# Altium integrated library Altera MAX 9000.IntLib: 43 symbols (part 3 of 4)
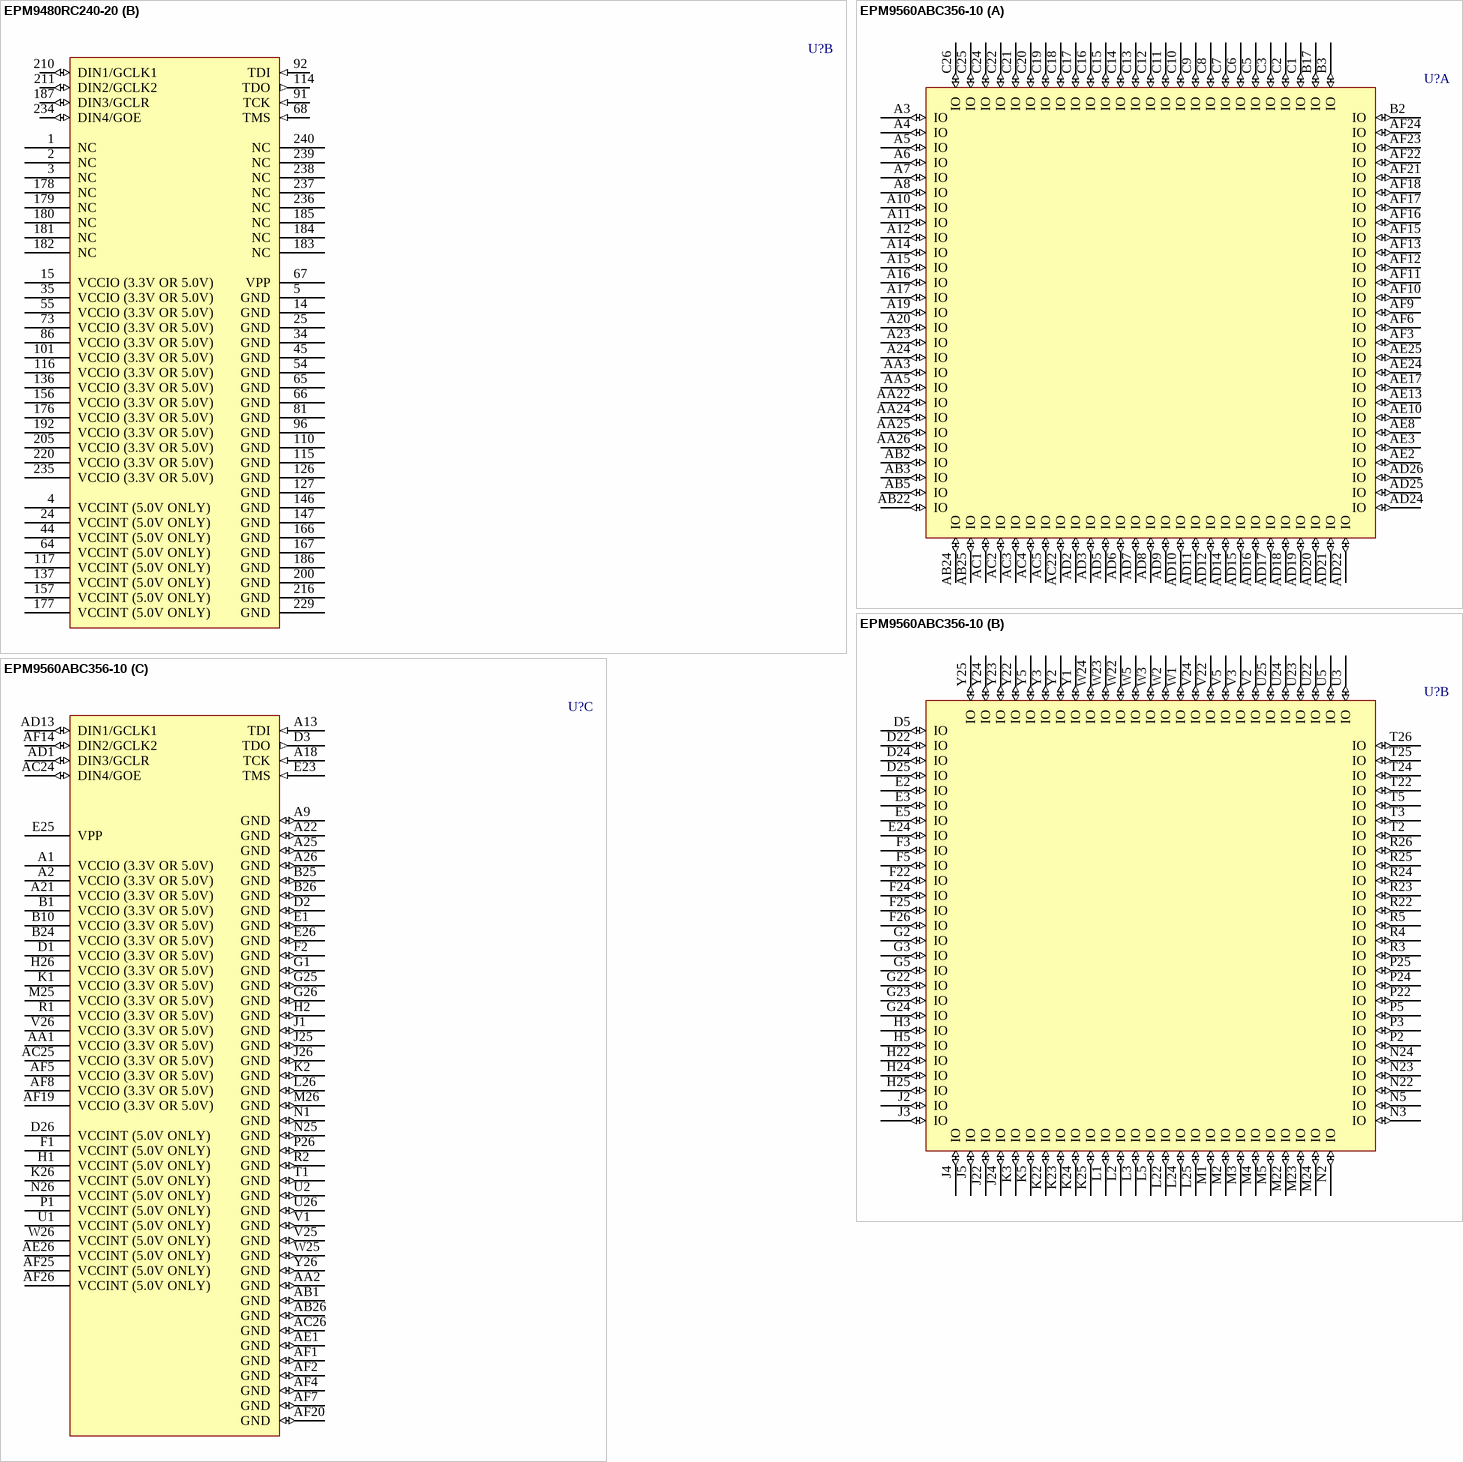
[diagram p33: symbols EPM9480RC240-20 to EPM9560ABC356-10]

## EPM9480RC240-20
designator U?
MAX 9000 PLD with 175 I/O Pins, 240-Pin RQFP, Commercial Grade; Published: 23-Sep-2002; LatestRevisionDate: 13-Apr-2006; LatestRevisionNote: IPC-7351 Footprint Added.; DatasheetVersion: Jul-1999; PackageVersion: ver14.2, Oct-2005; PackageReference: RQFP240; Publisher: Altium Limited; PackageDescription: 240-Pin Power Quad Flat Pack (RQFP240); Code_JEDEC: MS-029-GA; ComponentLink1Description: Manufacturer Link; ComponentLink1URL: http://www.altera.com/products/devices/max9k/m9k-index.html; ComponentLink2Description: Datasheet; ComponentLink2URL: http://www.altera.com/literature/ds/m9000.pdf
footprint RQFP240_N (Shrink QFP, 240-Leads, Body 32x32mm, Pitch 0.5mm, IPC Medium Density)
footprint RQFP240_L (Shrink QFP, 240-Leads, Body 32x32mm, Pitch 0.5mm, IPC High Density)
footprint RQFP240_M (Shrink QFP, 240-Leads, Body 32x32mm, Pitch 0.5mm, IPC Low Density)
3D model EPM9480-RQFP240 (240-Pin Power Quad Flat Pack (RQFP240))
part A pins: 6 IO (io), 7 IO (io), 8 IO (io), 9 IO (io), 10 IO (io), 11 IO (io), 12 IO (io), 13 IO (io), 16 IO (io), 17 IO (io), 18 IO (io), 19 IO (io), 20 IO (io), 21 IO (io), 22 IO (io), 23 IO (io), 26 IO (io), 27 IO (io), 28 IO (io), 29 IO (io), 30 IO (io), 31 IO (io), 32 IO (io), 33 IO (io), 36 IO (io), 37 IO (io), 38 IO (io), 39 IO (io), 40 IO (io), 41 IO (io), 42 IO (io), 43 IO (io), 46 IO (io), 47 IO (io), 48 IO (io), 49 IO (io), 50 IO (io), 51 IO (io), 52 IO (io), 53 IO (io), 56 IO (io), 57 IO (io), 58 IO (io), 59 IO (io), 60 IO (io), 61 IO (io), 62 IO (io), 63 IO (io), 69 IO (io), 70 IO (io), 71 IO (io), 72 IO (io), 74 IO (io), 75 IO (io), 76 IO (io), 77 IO (io), 78 IO (io), 79 IO (io), 80 IO (io), 82 IO (io), 83 IO (io), 84 IO (io), 85 IO (io), 87 IO (io), 88 IO (io), 89 IO (io), 90 IO (io), 93 IO (io), 94 IO (io), 95 IO (io), 97 IO (io), 98 IO (io), 99 IO (io), 100 IO (io), 102 IO (io), 103 IO (io), 104 IO (io), 105 IO (io), 106 IO (io), 107 IO (io), 108 IO (io), 109 IO (io), 111 IO (io), 112 IO (io), 113 IO (io), 118 IO (io), 119 IO (io), 120 IO (io), 121 IO (io), 122 IO (io), 123 IO (io), 124 IO (io), 125 IO (io), 128 IO (io), 129 IO (io), 130 IO (io), 131 IO (io), 132 IO (io), 133 IO (io), 134 IO (io), 135 IO (io), 138 IO (io), 139 IO (io), 140 IO (io), 141 IO (io), 142 IO (io), 143 IO (io), 144 IO (io), 145 IO (io), 148 IO (io), 149 IO (io), 150 IO (io), 151 IO (io), 152 IO (io), 153 IO (io), 154 IO (io), 155 IO (io), 158 IO (io), 159 IO (io), 160 IO (io), 161 IO (io), 162 IO (io), 163 IO (io), 164 IO (io), 165 IO (io), 168 IO (io), 169 IO (io), 170 IO (io), 171 IO (io), 172 IO (io), 173 IO (io), 174 IO (io), 175 IO (io), 188 IO (io), 189 IO (io), 190 IO (io), 191 IO (io), 193 IO (io), 194 IO (io), 195 IO (io), 196 IO (io), 197 IO (io), 198 IO (io), 199 IO (io), 201 IO (io), 202 IO (io), 203 IO (io), 204 IO (io), 206 IO (io), 207 IO (io), 208 IO (io), 209 IO (io), 212 IO (io), 213 IO (io), 214 IO (io), 215 IO (io), 217 IO (io), 218 IO (io), 219 IO (io), 221 IO (io), 222 IO (io), 223 IO (io), 224 IO (io), 225 IO (io), 226 IO (io), 227 IO (io), 228 IO (io), 230 IO (io), 231 IO (io), 232 IO (io), 233 IO (io)
part B pins: 1 NC, 2 NC, 3 NC, 4 VCCINT (5.0V ONLY) (power), 5 GND (power), 14 GND (power), 15 VCCIO (3.3V OR 5.0V) (power), 24 VCCINT (5.0V ONLY) (power), 25 GND (power), 34 GND (power), 35 VCCIO (3.3V OR 5.0V) (power), 44 VCCINT (5.0V ONLY) (power), 45 GND (power), 54 GND (power), 55 VCCIO (3.3V OR 5.0V) (power), 64 VCCINT (5.0V ONLY) (power), 65 GND (power), 66 GND (power), 67 VPP (power), 68 TMS (in), 73 VCCIO (3.3V OR 5.0V) (power), 81 GND (power), 86 VCCIO (3.3V OR 5.0V) (power), 91 TCK (in), 92 TDI (in), 96 GND (power), 101 VCCIO (3.3V OR 5.0V) (power), 110 GND (power), 114 TDO (out), 115 GND (power), 116 VCCIO (3.3V OR 5.0V) (power), 117 VCCINT (5.0V ONLY) (power), 126 GND (power), 127 GND (power), 136 VCCIO (3.3V OR 5.0V) (power), 137 VCCINT (5.0V ONLY) (power), 146 GND (power), 147 GND (power), 156 VCCIO (3.3V OR 5.0V) (power), 157 VCCINT (5.0V ONLY) (power), 166 GND (power), 167 GND (power), 176 VCCIO (3.3V OR 5.0V) (power), 177 VCCINT (5.0V ONLY) (power), 178 NC, 179 NC, 180 NC, 181 NC, 182 NC, 183 NC, 184 NC, 185 NC, 186 GND (power), 187 DIN3/GCLR (io), 192 VCCIO (3.3V OR 5.0V) (power), 200 GND (power), 205 VCCIO (3.3V OR 5.0V) (power), 210 DIN1/GCLK1 (io), 211 DIN2/GCLK2 (io), 216 GND (power), 220 VCCIO (3.3V OR 5.0V) (power), 229 GND (power), 234 DIN4/GOE (io), 235 VCCIO (3.3V OR 5.0V) (power), 236 NC, 237 NC, 238 NC, 239 NC, 240 NC

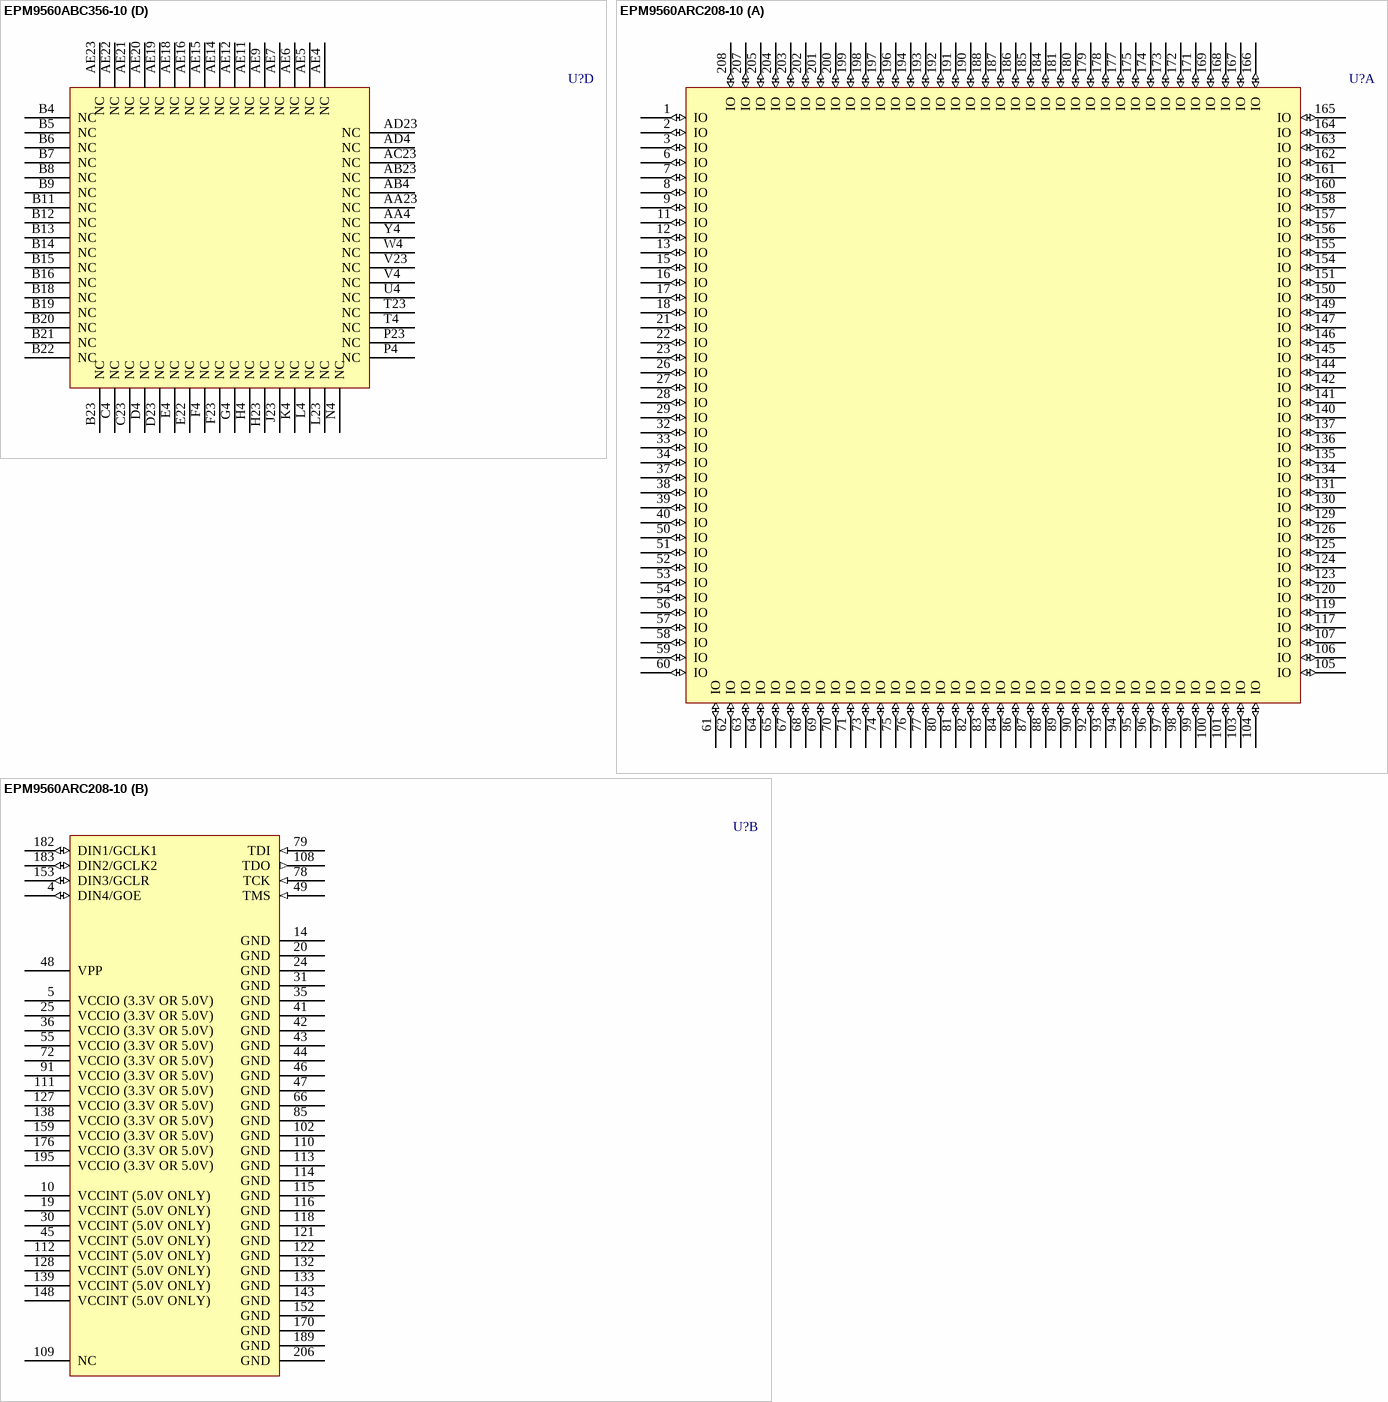
[diagram p18: symbols EPM9560ABC356-10 to EPM9560ARC208-10]

## EPM9560ABC356-10
designator U?
MAX 9000 PLD with 216 I/O Pins, 256-Pin BGA, Commercial Grade; Published: 23-Sep-2002; LatestRevisionDate: 13-Apr-2006; LatestRevisionNote: IPC-7351 Footprint Added.; DatasheetVersion: Jul-1999; PackageVersion: ver14.2, Oct-2005; PackageReference: BGA356; Publisher: Altium Limited; PackageDescription: 356-Ball Ball Grid Array (BGA356); Code_JEDEC: MO-192-BAR-2; ComponentLink1Description: Manufacturer Link; ComponentLink1URL: http://www.altera.com/products/devices/max9k/m9k-index.html; ComponentLink2Description: Datasheet; ComponentLink2URL: http://www.altera.com/literature/ds/m9000.pdf
footprint BGA356 (BGA, 356-Leads, Body 35x35mm, Pitch 1.27mm)
3D model EPM9560A-BGA356 (356-Ball Ball Grid Array (BGA356))
part A pins: A3 IO (io), A4 IO (io), A5 IO (io), A6 IO (io), A7 IO (io), A8 IO (io), A10 IO (io), A11 IO (io), A12 IO (io), A14 IO (io), A15 IO (io), A16 IO (io), A17 IO (io), A19 IO (io), A20 IO (io), A23 IO (io), A24 IO (io), AA3 IO (io), AA5 IO (io), AA22 IO (io), AA24 IO (io), AA25 IO (io), AA26 IO (io), AB2 IO (io), AB3 IO (io), AB5 IO (io), AB22 IO (io), AB24 IO (io), AB25 IO (io), AC1 IO (io), AC2 IO (io), AC3 IO (io), AC4 IO (io), AC5 IO (io), AC22 IO (io), AD2 IO (io), AD3 IO (io), AD5 IO (io), AD6 IO (io), AD7 IO (io), AD8 IO (io), AD9 IO (io), AD10 IO (io), AD11 IO (io), AD12 IO (io), AD14 IO (io), AD15 IO (io), AD16 IO (io), AD17 IO (io), AD18 IO (io), AD19 IO (io), AD20 IO (io), AD21 IO (io), AD22 IO (io), AD24 IO (io), AD25 IO (io), AD26 IO (io), AE2 IO (io), AE3 IO (io), AE8 IO (io), AE10 IO (io), AE13 IO (io), AE17 IO (io), AE24 IO (io), AE25 IO (io), AF3 IO (io), AF6 IO (io), AF9 IO (io), AF10 IO (io), AF11 IO (io), AF12 IO (io), AF13 IO (io), AF15 IO (io), AF16 IO (io), AF17 IO (io), AF18 IO (io), AF21 IO (io), AF22 IO (io), AF23 IO (io), AF24 IO (io), B2 IO (io), B3 IO (io), B17 IO (io), C1 IO (io), C2 IO (io), C3 IO (io), C5 IO (io), C6 IO (io), C7 IO (io), C8 IO (io), C9 IO (io), C10 IO (io), C11 IO (io), C12 IO (io), C13 IO (io), C14 IO (io), C15 IO (io), C16 IO (io), C17 IO (io), C18 IO (io), C19 IO (io), C20 IO (io), C21 IO (io), C22 IO (io), C24 IO (io), C25 IO (io), C26 IO (io)
part B pins: D5 IO (io), D22 IO (io), D24 IO (io), D25 IO (io), E2 IO (io), E3 IO (io), E5 IO (io), E24 IO (io), F3 IO (io), F5 IO (io), F22 IO (io), F24 IO (io), F25 IO (io), F26 IO (io), G2 IO (io), G3 IO (io), G5 IO (io), G22 IO (io), G23 IO (io), G24 IO (io), H3 IO (io), H5 IO (io), H22 IO (io), H24 IO (io), H25 IO (io), J2 IO (io), J3 IO (io), J4 IO (io), J5 IO (io), J22 IO (io), J24 IO (io), K3 IO (io), K5 IO (io), K22 IO (io), K23 IO (io), K24 IO (io), K25 IO (io), L1 IO (io), L2 IO (io), L3 IO (io), L5 IO (io), L22 IO (io), L24 IO (io), L25 IO (io), M1 IO (io), M2 IO (io), M3 IO (io), M4 IO (io), M5 IO (io), M22 IO (io), M23 IO (io), M24 IO (io), N2 IO (io), N3 IO (io), N5 IO (io), N22 IO (io), N23 IO (io), N24 IO (io), P2 IO (io), P3 IO (io), P5 IO (io), P22 IO (io), P24 IO (io), P25 IO (io), R3 IO (io), R4 IO (io), R5 IO (io), R22 IO (io), R23 IO (io), R24 IO (io), R25 IO (io), R26 IO (io), T2 IO (io), T3 IO (io), T5 IO (io), T22 IO (io), T24 IO (io), T25 IO (io), T26 IO (io), U3 IO (io), U5 IO (io), U22 IO (io), U23 IO (io), U24 IO (io), U25 IO (io), V2 IO (io), V3 IO (io), V5 IO (io), V22 IO (io), V24 IO (io), W1 IO (io), W2 IO (io), W3 IO (io), W5 IO (io), W22 IO (io), W23 IO (io), W24 IO (io), Y1 IO (io), Y2 IO (io), Y3 IO (io), Y5 IO (io), Y22 IO (io), Y23 IO (io), Y24 IO (io), Y25 IO (io)
part C pins: A1 VCCIO (3.3V OR 5.0V) (power), A2 VCCIO (3.3V OR 5.0V) (power), A9 GND (io), A13 TDI (in), A18 TCK (in), A21 VCCIO (3.3V OR 5.0V) (power), A22 GND (io), A25 GND (io), A26 GND (io), AA1 VCCIO (3.3V OR 5.0V) (power), AA2 GND (io), AB1 GND (io), AB26 GND (io), AC24 DIN4/GOE (io), AC25 VCCIO (3.3V OR 5.0V) (power), AC26 GND (io), AD1 DIN3/GCLR (io), AD13 DIN1/GCLK1 (io), AE1 GND (io), AE26 VCCINT (5.0V ONLY) (power), AF1 GND (io), AF2 GND (io), AF4 GND (io), AF5 VCCIO (3.3V OR 5.0V) (power), AF7 GND (io), AF8 VCCIO (3.3V OR 5.0V) (power), AF14 DIN2/GCLK2 (io), AF19 VCCIO (3.3V OR 5.0V) (power), AF20 GND (io), AF25 VCCINT (5.0V ONLY) (power), AF26 VCCINT (5.0V ONLY) (power), B1 VCCIO (3.3V OR 5.0V) (power), B10 VCCIO (3.3V OR 5.0V) (power), B24 VCCIO (3.3V OR 5.0V) (power), B25 GND (io), B26 GND (io), D1 VCCIO (3.3V OR 5.0V) (power), D2 GND (io), D3 TDO (out), D26 VCCINT (5.0V ONLY) (power), E1 GND (io), E23 TMS (in), E25 VPP (power), E26 GND (io), F1 VCCINT (5.0V ONLY) (power), F2 GND (io), G1 GND (io), G25 GND (io), G26 GND (io), H1 VCCINT (5.0V ONLY) (power), H2 GND (io), H26 VCCIO (3.3V OR 5.0V) (power), J1 GND (io), J25 GND (io), J26 GND (io), K1 VCCIO (3.3V OR 5.0V) (power), K2 GND (io), K26 VCCINT (5.0V ONLY) (power), L26 GND (io), M25 VCCIO (3.3V OR 5.0V) (power), M26 GND (io), N1 GND (io), N25 GND (io), N26 VCCINT (5.0V ONLY) (power), P1 VCCINT (5.0V ONLY) (power), P26 GND (io), R1 VCCIO (3.3V OR 5.0V) (power), R2 GND (io), T1 GND (io), U1 VCCINT (5.0V ONLY) (power), U2 GND (io), U26 GND (io), V1 GND (io), V25 GND (io), V26 VCCIO (3.3V OR 5.0V) (power), W25 GND (io), W26 VCCINT (5.0V ONLY) (power), Y26 GND (io)
part D pins: AA4 NC, AA23 NC, AB4 NC, AB23 NC, AC23 NC, AD4 NC, AD23 NC, AE4 NC, AE5 NC, AE6 NC, AE7 NC, AE9 NC, AE11 NC, AE12 NC, AE14 NC, AE15 NC, AE16 NC, AE18 NC, AE19 NC, AE20 NC, AE21 NC, AE22 NC, AE23 NC, B4 NC, B5 NC, B6 NC, B7 NC, B8 NC, B9 NC, B11 NC, B12 NC, B13 NC, B14 NC, B15 NC, B16 NC, B18 NC, B19 NC, B20 NC, B21 NC, B22 NC, B23 NC, C4 NC, C23 NC, D4 NC, D23 NC, E4 NC, E22 NC, F4 NC, F23 NC, G4 NC, H4 NC, H23 NC, J23 NC, K4 NC, L4 NC, L23 NC, N4 NC, P4 NC, P23 NC, T4 NC, T23 NC, U4 NC, V4 NC, V23 NC, W4 NC, Y4 NC

## EPM9560ARC208-10
designator U?
MAX 9000 PLD with 153 I/O Pins, 208-Pin RQFP, Commercial Grade; Published: 23-Sep-2002; LatestRevisionDate: 13-Apr-2006; LatestRevisionNote: IPC-7351 Footprint Added.; DatasheetVersion: Jul-1999; PackageVersion: ver14.3, Jul-2006; PackageReference: RQFP208; Publisher: Altium Limited; PackageDescription: 208-Pin Power Quad Flat Pack (RQFP208); Supplier 1: Digi-Key; Supplier Part Number 1: 544-2363-ND; Code_JEDEC: MS-029-FA-1; ComponentLink1Description: Manufacturer Link; ComponentLink1URL: http://www.altera.com/products/devices/max9k/m9k-index.html; ComponentLink2Description: Datasheet; ComponentLink2URL: http://www.altera.com/literature/ds/m9000.pdf
footprint RQFP208_N (Shrink QFP, 208-Leads, Body 28x28mm, Pitch 0.5mm, IPC Medium Density)
footprint RQFP208_L (Shrink QFP, 208-Leads, Body 28x28mm, Pitch 0.5mm, IPC High Density)
footprint RQFP208_M (Shrink QFP, 208-Leads, Body 28x28mm, Pitch 0.5mm, IPC Low Density)
3D model EPM9560A-RQFP208 (208-Pin Power Quad Flat Pack (RQFP208))
part A pins: 1 IO (io), 2 IO (io), 3 IO (io), 6 IO (io), 7 IO (io), 8 IO (io), 9 IO (io), 11 IO (io), 12 IO (io), 13 IO (io), 15 IO (io), 16 IO (io), 17 IO (io), 18 IO (io), 21 IO (io), 22 IO (io), 23 IO (io), 26 IO (io), 27 IO (io), 28 IO (io), 29 IO (io), 32 IO (io), 33 IO (io), 34 IO (io), 37 IO (io), 38 IO (io), 39 IO (io), 40 IO (io), 50 IO (io), 51 IO (io), 52 IO (io), 53 IO (io), 54 IO (io), 56 IO (io), 57 IO (io), 58 IO (io), 59 IO (io), 60 IO (io), 61 IO (io), 62 IO (io), 63 IO (io), 64 IO (io), 65 IO (io), 67 IO (io), 68 IO (io), 69 IO (io), 70 IO (io), 71 IO (io), 73 IO (io), 74 IO (io), 75 IO (io), 76 IO (io), 77 IO (io), 80 IO (io), 81 IO (io), 82 IO (io), 83 IO (io), 84 IO (io), 86 IO (io), 87 IO (io), 88 IO (io), 89 IO (io), 90 IO (io), 92 IO (io), 93 IO (io), 94 IO (io), 95 IO (io), 96 IO (io), 97 IO (io), 98 IO (io), 99 IO (io), 100 IO (io), 101 IO (io), 103 IO (io), 104 IO (io), 105 IO (io), 106 IO (io), 107 IO (io), 117 IO (io), 119 IO (io), 120 IO (io), 123 IO (io), 124 IO (io), 125 IO (io), 126 IO (io), 129 IO (io), 130 IO (io), 131 IO (io), 134 IO (io), 135 IO (io), 136 IO (io), 137 IO (io), 140 IO (io), 141 IO (io), 142 IO (io), 144 IO (io), 145 IO (io), 146 IO (io), 147 IO (io), 149 IO (io), 150 IO (io), 151 IO (io), 154 IO (io), 155 IO (io), 156 IO (io), 157 IO (io), 158 IO (io), 160 IO (io), 161 IO (io), 162 IO (io), 163 IO (io), 164 IO (io), 165 IO (io), 166 IO (io), 167 IO (io), 168 IO (io), 169 IO (io), 171 IO (io), 172 IO (io), 173 IO (io), 174 IO (io), 175 IO (io), 177 IO (io), 178 IO (io), 179 IO (io), 180 IO (io), 181 IO (io), 184 IO (io), 185 IO (io), 186 IO (io), 187 IO (io), 188 IO (io), 190 IO (io), 191 IO (io), 192 IO (io), 193 IO (io), 194 IO (io), 196 IO (io), 197 IO (io), 198 IO (io), 199 IO (io), 200 IO (io), 201 IO (io), 202 IO (io), 203 IO (io), 204 IO (io), 205 IO (io), 207 IO (io), 208 IO (io)
part B pins: 4 DIN4/GOE (io), 5 VCCIO (3.3V OR 5.0V) (power), 10 VCCINT (5.0V ONLY) (power), 14 GND (power), 19 VCCINT (5.0V ONLY) (power), 20 GND (power), 24 GND (power), 25 VCCIO (3.3V OR 5.0V) (power), 30 VCCINT (5.0V ONLY) (power), 31 GND (power), 35 GND (power), 36 VCCIO (3.3V OR 5.0V) (power), 41 GND (power), 42 GND (power), 43 GND (power), 44 GND (power), 45 VCCINT (5.0V ONLY) (power), 46 GND (power), 47 GND (power), 48 VPP (power), 49 TMS (in), 55 VCCIO (3.3V OR 5.0V) (power), 66 GND (power), 72 VCCIO (3.3V OR 5.0V) (power), 78 TCK (in), 79 TDI (in), 85 GND (power), 91 VCCIO (3.3V OR 5.0V) (power), 102 GND (power), 108 TDO (out), 109 NC, 110 GND (power), 111 VCCIO (3.3V OR 5.0V) (power), 112 VCCINT (5.0V ONLY) (power), 113 GND (power), 114 GND (power), 115 GND (power), 116 GND (power), 118 GND (power), 121 GND (power), 122 GND (power), 127 VCCIO (3.3V OR 5.0V) (power), 128 VCCINT (5.0V ONLY) (power), 132 GND (power), 133 GND (power), 138 VCCIO (3.3V OR 5.0V) (power), 139 VCCINT (5.0V ONLY) (power), 143 GND (power), 148 VCCINT (5.0V ONLY) (power), 152 GND (power), 153 DIN3/GCLR (io), 159 VCCIO (3.3V OR 5.0V) (power), 170 GND (power), 176 VCCIO (3.3V OR 5.0V) (power), 182 DIN1/GCLK1 (io), 183 DIN2/GCLK2 (io), 189 GND (power), 195 VCCIO (3.3V OR 5.0V) (power), 206 GND (power)

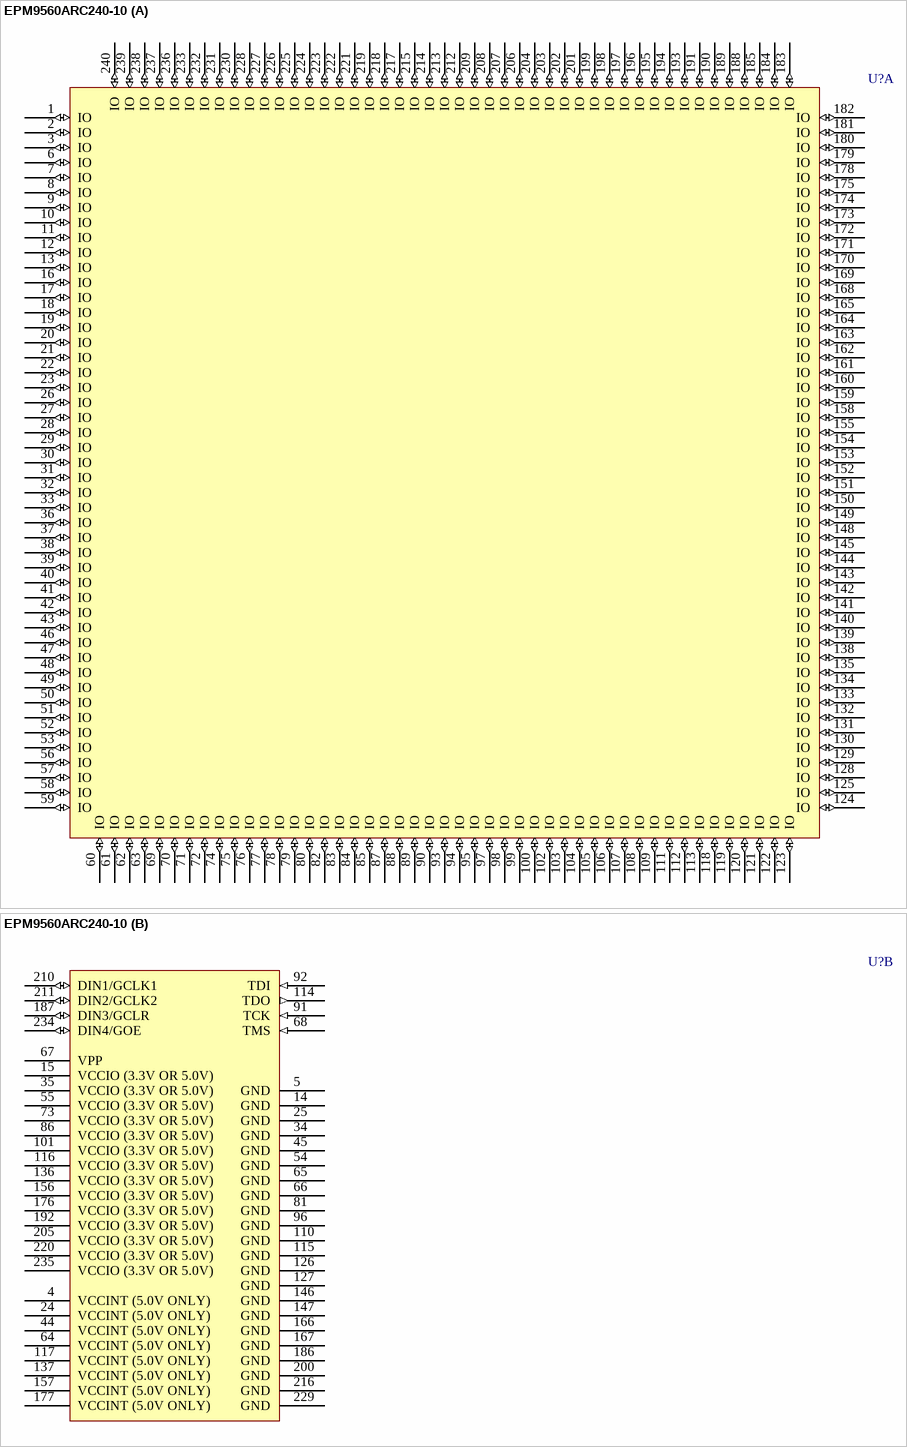
[diagram p19: symbol EPM9560ARC240-10]

## EPM9560ARC240-10
designator U?
MAX 9000 PLD with 191 I/O Pins, 240-Pin RQFP, Commercial Grade; Published: 23-Sep-2002; LatestRevisionDate: 13-Apr-2006; LatestRevisionNote: IPC-7351 Footprint Added.; DatasheetVersion: Jul-1999; PackageVersion: ver14.2, Oct-2005; PackageReference: RQFP240; Publisher: Altium Limited; PackageDescription: 240-Pin Power Quad Flat Pack (RQFP240); Code_JEDEC: MS-029-GA; ComponentLink1Description: Manufacturer Link; ComponentLink1URL: http://www.altera.com/products/devices/max9k/m9k-index.html; ComponentLink2Description: Datasheet; ComponentLink2URL: http://www.altera.com/literature/ds/m9000.pdf
footprint RQFP240_N (Shrink QFP, 240-Leads, Body 32x32mm, Pitch 0.5mm, IPC Medium Density)
footprint RQFP240_L (Shrink QFP, 240-Leads, Body 32x32mm, Pitch 0.5mm, IPC High Density)
footprint RQFP240_M (Shrink QFP, 240-Leads, Body 32x32mm, Pitch 0.5mm, IPC Low Density)
3D model EPM9560A-RQFP240 (240-Pin Power Quad Flat Pack (RQFP240))
part A pins: 1 IO (io), 2 IO (io), 3 IO (io), 6 IO (io), 7 IO (io), 8 IO (io), 9 IO (io), 10 IO (io), 11 IO (io), 12 IO (io), 13 IO (io), 16 IO (io), 17 IO (io), 18 IO (io), 19 IO (io), 20 IO (io), 21 IO (io), 22 IO (io), 23 IO (io), 26 IO (io), 27 IO (io), 28 IO (io), 29 IO (io), 30 IO (io), 31 IO (io), 32 IO (io), 33 IO (io), 36 IO (io), 37 IO (io), 38 IO (io), 39 IO (io), 40 IO (io), 41 IO (io), 42 IO (io), 43 IO (io), 46 IO (io), 47 IO (io), 48 IO (io), 49 IO (io), 50 IO (io), 51 IO (io), 52 IO (io), 53 IO (io), 56 IO (io), 57 IO (io), 58 IO (io), 59 IO (io), 60 IO (io), 61 IO (io), 62 IO (io), 63 IO (io), 69 IO (io), 70 IO (io), 71 IO (io), 72 IO (io), 74 IO (io), 75 IO (io), 76 IO (io), 77 IO (io), 78 IO (io), 79 IO (io), 80 IO (io), 82 IO (io), 83 IO (io), 84 IO (io), 85 IO (io), 87 IO (io), 88 IO (io), 89 IO (io), 90 IO (io), 93 IO (io), 94 IO (io), 95 IO (io), 97 IO (io), 98 IO (io), 99 IO (io), 100 IO (io), 102 IO (io), 103 IO (io), 104 IO (io), 105 IO (io), 106 IO (io), 107 IO (io), 108 IO (io), 109 IO (io), 111 IO (io), 112 IO (io), 113 IO (io), 118 IO (io), 119 IO (io), 120 IO (io), 121 IO (io), 122 IO (io), 123 IO (io), 124 IO (io), 125 IO (io), 128 IO (io), 129 IO (io), 130 IO (io), 131 IO (io), 132 IO (io), 133 IO (io), 134 IO (io), 135 IO (io), 138 IO (io), 139 IO (io), 140 IO (io), 141 IO (io), 142 IO (io), 143 IO (io), 144 IO (io), 145 IO (io), 148 IO (io), 149 IO (io), 150 IO (io), 151 IO (io), 152 IO (io), 153 IO (io), 154 IO (io), 155 IO (io), 158 IO (io), 159 IO (io), 160 IO (io), 161 IO (io), 162 IO (io), 163 IO (io), 164 IO (io), 165 IO (io), 168 IO (io), 169 IO (io), 170 IO (io), 171 IO (io), 172 IO (io), 173 IO (io), 174 IO (io), 175 IO (io), 178 IO (io), 179 IO (io), 180 IO (io), 181 IO (io), 182 IO (io), 183 IO (io), 184 IO (io), 185 IO (io), 188 IO (io), 189 IO (io), 190 IO (io), 191 IO (io), 193 IO (io), 194 IO (io), 195 IO (io), 196 IO (io), 197 IO (io), 198 IO (io), 199 IO (io), 201 IO (io), 202 IO (io), 203 IO (io), 204 IO (io), 206 IO (io), 207 IO (io), 208 IO (io), 209 IO (io), 212 IO (io), 213 IO (io), 214 IO (io), 215 IO (io), 217 IO (io), 218 IO (io), 219 IO (io), 221 IO (io), 222 IO (io), 223 IO (io), 224 IO (io), 225 IO (io), 226 IO (io), 227 IO (io), 228 IO (io), 230 IO (io), 231 IO (io), 232 IO (io), 233 IO (io), 236 IO (io), 237 IO (io), 238 IO (io), 239 IO (io), 240 IO (io)
part B pins: 4 VCCINT (5.0V ONLY) (power), 5 GND (power), 14 GND (power), 15 VCCIO (3.3V OR 5.0V) (power), 24 VCCINT (5.0V ONLY) (power), 25 GND (power), 34 GND (power), 35 VCCIO (3.3V OR 5.0V) (power), 44 VCCINT (5.0V ONLY) (power), 45 GND (power), 54 GND (power), 55 VCCIO (3.3V OR 5.0V) (power), 64 VCCINT (5.0V ONLY) (power), 65 GND (power), 66 GND (power), 67 VPP (power), 68 TMS (in), 73 VCCIO (3.3V OR 5.0V) (power), 81 GND (power), 86 VCCIO (3.3V OR 5.0V) (power), 91 TCK (in), 92 TDI (in), 96 GND (power), 101 VCCIO (3.3V OR 5.0V) (power), 110 GND (power), 114 TDO (out), 115 GND (power), 116 VCCIO (3.3V OR 5.0V) (power), 117 VCCINT (5.0V ONLY) (power), 126 GND (power), 127 GND (power), 136 VCCIO (3.3V OR 5.0V) (power), 137 VCCINT (5.0V ONLY) (power), 146 GND (power), 147 GND (power), 156 VCCIO (3.3V OR 5.0V) (power), 157 VCCINT (5.0V ONLY) (power), 166 GND (power), 167 GND (power), 176 VCCIO (3.3V OR 5.0V) (power), 177 VCCINT (5.0V ONLY) (power), 186 GND (power), 187 DIN3/GCLR (io), 192 VCCIO (3.3V OR 5.0V) (power), 200 GND (power), 205 VCCIO (3.3V OR 5.0V) (power), 210 DIN1/GCLK1 (io), 211 DIN2/GCLK2 (io), 216 GND (power), 220 VCCIO (3.3V OR 5.0V) (power), 229 GND (power), 234 DIN4/GOE (io), 235 VCCIO (3.3V OR 5.0V) (power)

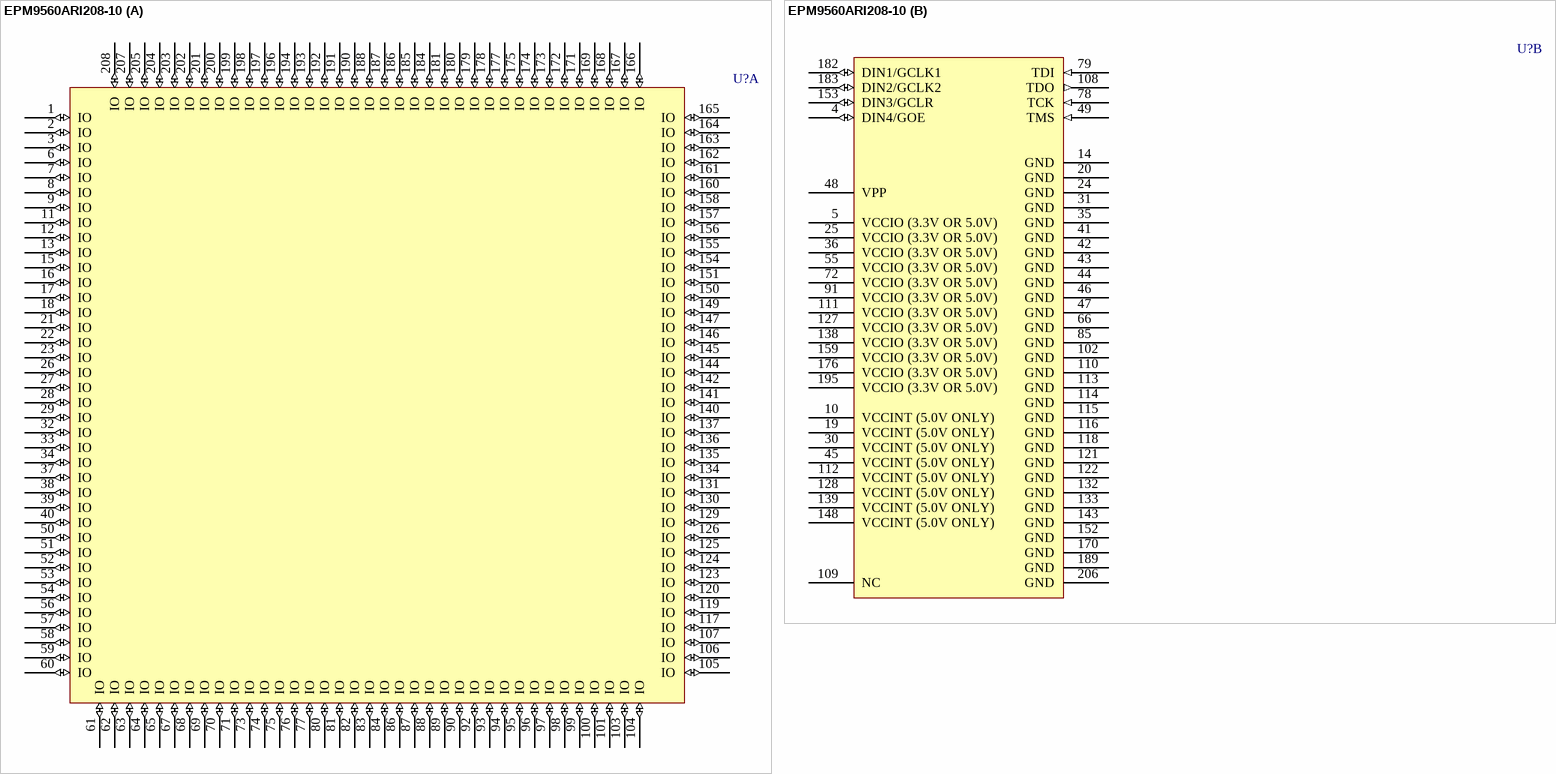
[diagram p20: symbol EPM9560ARI208-10]

## EPM9560ARI208-10
designator U?
MAX 9000 PLD with 153 I/O Pins, 208-Pin RQFP, Industrial Grade; Published: 23-Sep-2002; LatestRevisionDate: 13-Apr-2006; LatestRevisionNote: IPC-7351 Footprint Added.; DatasheetVersion: Jul-1999; PackageVersion: ver14.3, Jul-2006; PackageReference: RQFP208; Publisher: Altium Limited; PackageDescription: 208-Pin Power Quad Flat Pack (RQFP208); Supplier 1: Digi-Key; Supplier Part Number 1: 544-2364-ND; Code_JEDEC: MS-029-FA-1; ComponentLink1Description: Manufacturer Link; ComponentLink1URL: http://www.altera.com/products/devices/max9k/m9k-index.html; ComponentLink2Description: Datasheet; ComponentLink2URL: http://www.altera.com/literature/ds/m9000.pdf
footprint RQFP208_N (Shrink QFP, 208-Leads, Body 28x28mm, Pitch 0.5mm, IPC Medium Density)
footprint RQFP208_L (Shrink QFP, 208-Leads, Body 28x28mm, Pitch 0.5mm, IPC High Density)
footprint RQFP208_M (Shrink QFP, 208-Leads, Body 28x28mm, Pitch 0.5mm, IPC Low Density)
3D model EPM9560A-RQFP208 (208-Pin Power Quad Flat Pack (RQFP208))
part A pins: 1 IO (io), 2 IO (io), 3 IO (io), 6 IO (io), 7 IO (io), 8 IO (io), 9 IO (io), 11 IO (io), 12 IO (io), 13 IO (io), 15 IO (io), 16 IO (io), 17 IO (io), 18 IO (io), 21 IO (io), 22 IO (io), 23 IO (io), 26 IO (io), 27 IO (io), 28 IO (io), 29 IO (io), 32 IO (io), 33 IO (io), 34 IO (io), 37 IO (io), 38 IO (io), 39 IO (io), 40 IO (io), 50 IO (io), 51 IO (io), 52 IO (io), 53 IO (io), 54 IO (io), 56 IO (io), 57 IO (io), 58 IO (io), 59 IO (io), 60 IO (io), 61 IO (io), 62 IO (io), 63 IO (io), 64 IO (io), 65 IO (io), 67 IO (io), 68 IO (io), 69 IO (io), 70 IO (io), 71 IO (io), 73 IO (io), 74 IO (io), 75 IO (io), 76 IO (io), 77 IO (io), 80 IO (io), 81 IO (io), 82 IO (io), 83 IO (io), 84 IO (io), 86 IO (io), 87 IO (io), 88 IO (io), 89 IO (io), 90 IO (io), 92 IO (io), 93 IO (io), 94 IO (io), 95 IO (io), 96 IO (io), 97 IO (io), 98 IO (io), 99 IO (io), 100 IO (io), 101 IO (io), 103 IO (io), 104 IO (io), 105 IO (io), 106 IO (io), 107 IO (io), 117 IO (io), 119 IO (io), 120 IO (io), 123 IO (io), 124 IO (io), 125 IO (io), 126 IO (io), 129 IO (io), 130 IO (io), 131 IO (io), 134 IO (io), 135 IO (io), 136 IO (io), 137 IO (io), 140 IO (io), 141 IO (io), 142 IO (io), 144 IO (io), 145 IO (io), 146 IO (io), 147 IO (io), 149 IO (io), 150 IO (io), 151 IO (io), 154 IO (io), 155 IO (io), 156 IO (io), 157 IO (io), 158 IO (io), 160 IO (io), 161 IO (io), 162 IO (io), 163 IO (io), 164 IO (io), 165 IO (io), 166 IO (io), 167 IO (io), 168 IO (io), 169 IO (io), 171 IO (io), 172 IO (io), 173 IO (io), 174 IO (io), 175 IO (io), 177 IO (io), 178 IO (io), 179 IO (io), 180 IO (io), 181 IO (io), 184 IO (io), 185 IO (io), 186 IO (io), 187 IO (io), 188 IO (io), 190 IO (io), 191 IO (io), 192 IO (io), 193 IO (io), 194 IO (io), 196 IO (io), 197 IO (io), 198 IO (io), 199 IO (io), 200 IO (io), 201 IO (io), 202 IO (io), 203 IO (io), 204 IO (io), 205 IO (io), 207 IO (io), 208 IO (io)
part B pins: 4 DIN4/GOE (io), 5 VCCIO (3.3V OR 5.0V) (power), 10 VCCINT (5.0V ONLY) (power), 14 GND (power), 19 VCCINT (5.0V ONLY) (power), 20 GND (power), 24 GND (power), 25 VCCIO (3.3V OR 5.0V) (power), 30 VCCINT (5.0V ONLY) (power), 31 GND (power), 35 GND (power), 36 VCCIO (3.3V OR 5.0V) (power), 41 GND (power), 42 GND (power), 43 GND (power), 44 GND (power), 45 VCCINT (5.0V ONLY) (power), 46 GND (power), 47 GND (power), 48 VPP (power), 49 TMS (in), 55 VCCIO (3.3V OR 5.0V) (power), 66 GND (power), 72 VCCIO (3.3V OR 5.0V) (power), 78 TCK (in), 79 TDI (in), 85 GND (power), 91 VCCIO (3.3V OR 5.0V) (power), 102 GND (power), 108 TDO (out), 109 NC, 110 GND (power), 111 VCCIO (3.3V OR 5.0V) (power), 112 VCCINT (5.0V ONLY) (power), 113 GND (power), 114 GND (power), 115 GND (power), 116 GND (power), 118 GND (power), 121 GND (power), 122 GND (power), 127 VCCIO (3.3V OR 5.0V) (power), 128 VCCINT (5.0V ONLY) (power), 132 GND (power), 133 GND (power), 138 VCCIO (3.3V OR 5.0V) (power), 139 VCCINT (5.0V ONLY) (power), 143 GND (power), 148 VCCINT (5.0V ONLY) (power), 152 GND (power), 153 DIN3/GCLR (io), 159 VCCIO (3.3V OR 5.0V) (power), 170 GND (power), 176 VCCIO (3.3V OR 5.0V) (power), 182 DIN1/GCLK1 (io), 183 DIN2/GCLK2 (io), 189 GND (power), 195 VCCIO (3.3V OR 5.0V) (power), 206 GND (power)

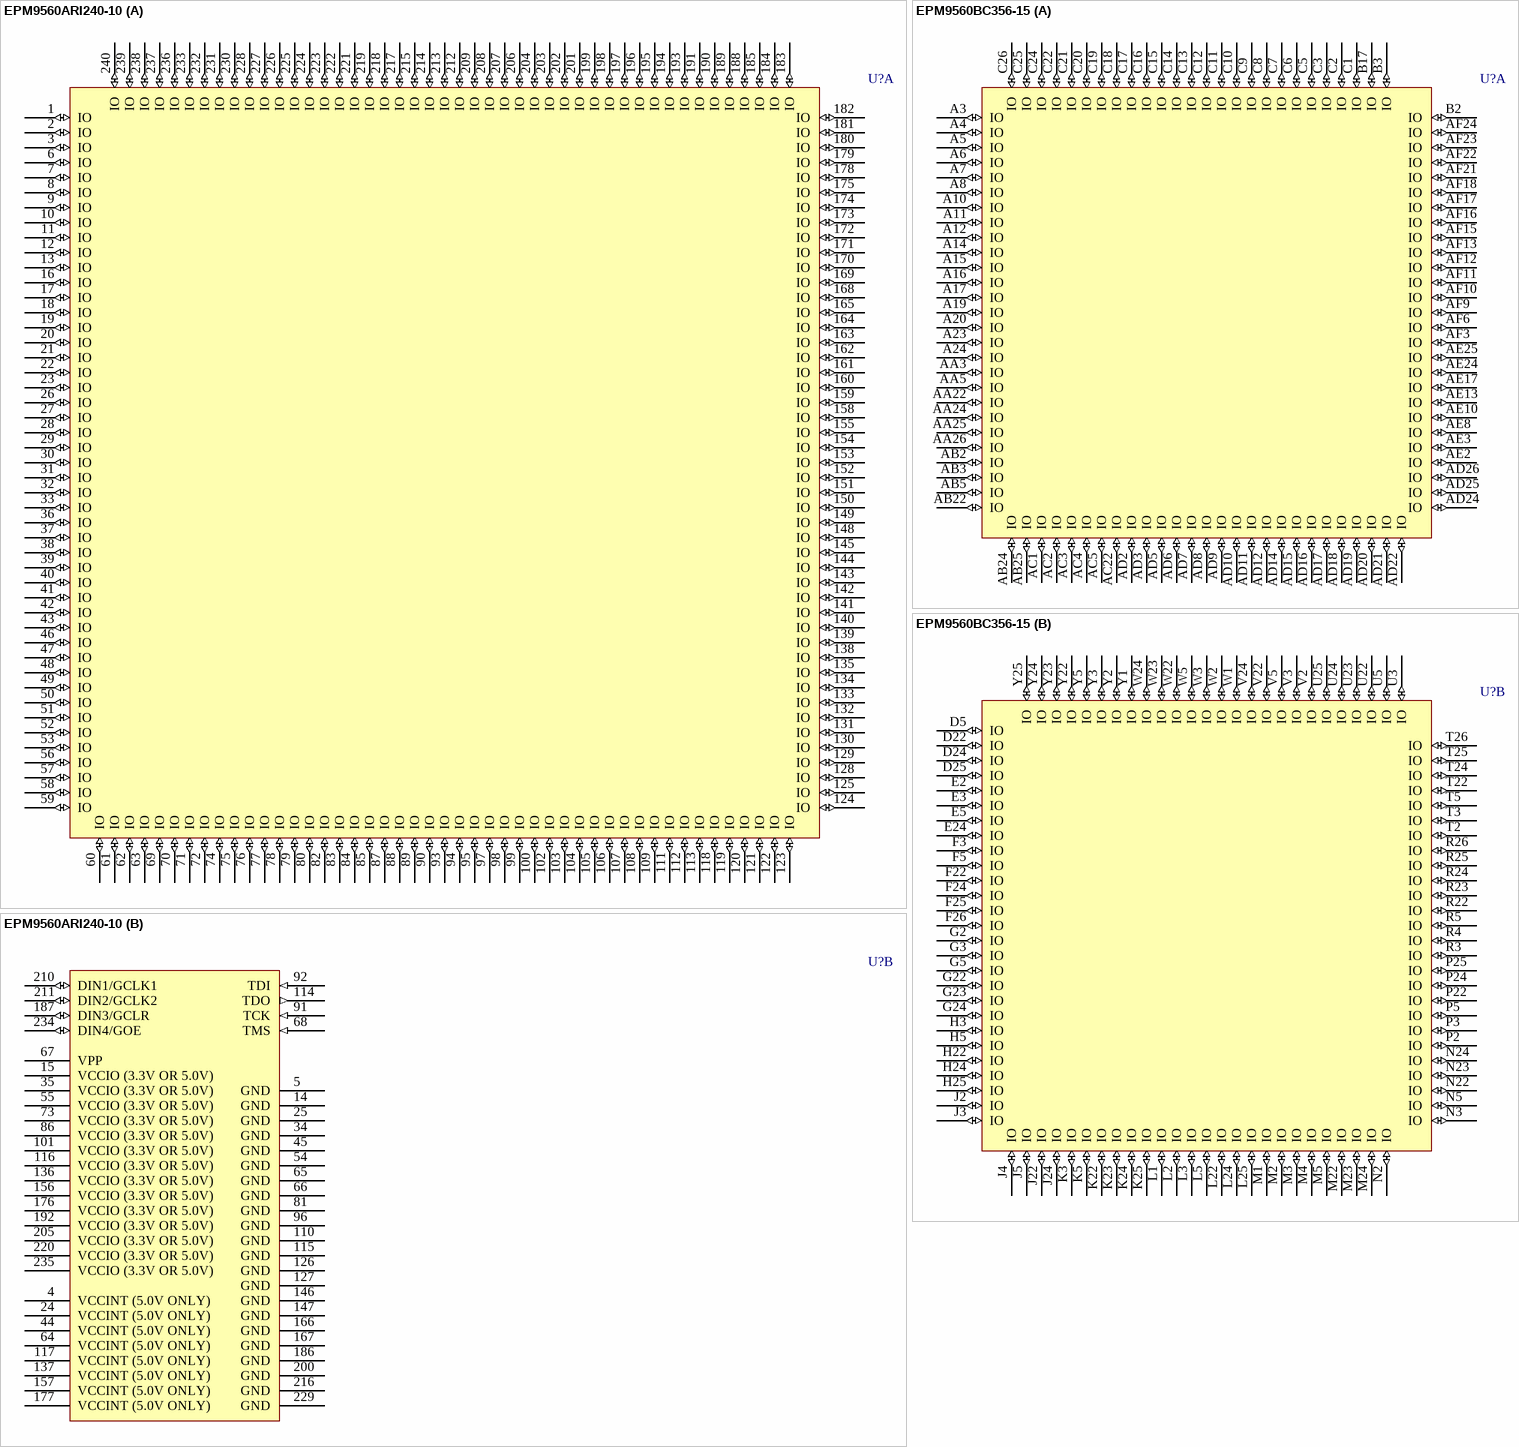
[diagram p21: symbols EPM9560ARI240-10 to EPM9560BC356-15]

## EPM9560ARI240-10
designator U?
MAX 9000 PLD with 191 I/O Pins, 240-Pin RQFP, Industrial Grade; Published: 23-Sep-2002; LatestRevisionDate: 13-Apr-2006; LatestRevisionNote: IPC-7351 Footprint Added.; DatasheetVersion: Jul-1999; PackageVersion: ver14.2, Oct-2005; PackageReference: RQFP240; Publisher: Altium Limited; PackageDescription: 240-Pin Power Quad Flat Pack (RQFP240); Supplier 1: Digi-Key; Supplier Part Number 1: 544-2365-ND; Code_JEDEC: MS-029-GA; ComponentLink1Description: Manufacturer Link; ComponentLink1URL: http://www.altera.com/products/devices/max9k/m9k-index.html; ComponentLink2Description: Datasheet; ComponentLink2URL: http://www.altera.com/literature/ds/m9000.pdf
footprint RQFP240_N (Shrink QFP, 240-Leads, Body 32x32mm, Pitch 0.5mm, IPC Medium Density)
footprint RQFP240_L (Shrink QFP, 240-Leads, Body 32x32mm, Pitch 0.5mm, IPC High Density)
footprint RQFP240_M (Shrink QFP, 240-Leads, Body 32x32mm, Pitch 0.5mm, IPC Low Density)
3D model EPM9560A-RQFP240 (240-Pin Power Quad Flat Pack (RQFP240))
part A pins: 1 IO (io), 2 IO (io), 3 IO (io), 6 IO (io), 7 IO (io), 8 IO (io), 9 IO (io), 10 IO (io), 11 IO (io), 12 IO (io), 13 IO (io), 16 IO (io), 17 IO (io), 18 IO (io), 19 IO (io), 20 IO (io), 21 IO (io), 22 IO (io), 23 IO (io), 26 IO (io), 27 IO (io), 28 IO (io), 29 IO (io), 30 IO (io), 31 IO (io), 32 IO (io), 33 IO (io), 36 IO (io), 37 IO (io), 38 IO (io), 39 IO (io), 40 IO (io), 41 IO (io), 42 IO (io), 43 IO (io), 46 IO (io), 47 IO (io), 48 IO (io), 49 IO (io), 50 IO (io), 51 IO (io), 52 IO (io), 53 IO (io), 56 IO (io), 57 IO (io), 58 IO (io), 59 IO (io), 60 IO (io), 61 IO (io), 62 IO (io), 63 IO (io), 69 IO (io), 70 IO (io), 71 IO (io), 72 IO (io), 74 IO (io), 75 IO (io), 76 IO (io), 77 IO (io), 78 IO (io), 79 IO (io), 80 IO (io), 82 IO (io), 83 IO (io), 84 IO (io), 85 IO (io), 87 IO (io), 88 IO (io), 89 IO (io), 90 IO (io), 93 IO (io), 94 IO (io), 95 IO (io), 97 IO (io), 98 IO (io), 99 IO (io), 100 IO (io), 102 IO (io), 103 IO (io), 104 IO (io), 105 IO (io), 106 IO (io), 107 IO (io), 108 IO (io), 109 IO (io), 111 IO (io), 112 IO (io), 113 IO (io), 118 IO (io), 119 IO (io), 120 IO (io), 121 IO (io), 122 IO (io), 123 IO (io), 124 IO (io), 125 IO (io), 128 IO (io), 129 IO (io), 130 IO (io), 131 IO (io), 132 IO (io), 133 IO (io), 134 IO (io), 135 IO (io), 138 IO (io), 139 IO (io), 140 IO (io), 141 IO (io), 142 IO (io), 143 IO (io), 144 IO (io), 145 IO (io), 148 IO (io), 149 IO (io), 150 IO (io), 151 IO (io), 152 IO (io), 153 IO (io), 154 IO (io), 155 IO (io), 158 IO (io), 159 IO (io), 160 IO (io), 161 IO (io), 162 IO (io), 163 IO (io), 164 IO (io), 165 IO (io), 168 IO (io), 169 IO (io), 170 IO (io), 171 IO (io), 172 IO (io), 173 IO (io), 174 IO (io), 175 IO (io), 178 IO (io), 179 IO (io), 180 IO (io), 181 IO (io), 182 IO (io), 183 IO (io), 184 IO (io), 185 IO (io), 188 IO (io), 189 IO (io), 190 IO (io), 191 IO (io), 193 IO (io), 194 IO (io), 195 IO (io), 196 IO (io), 197 IO (io), 198 IO (io), 199 IO (io), 201 IO (io), 202 IO (io), 203 IO (io), 204 IO (io), 206 IO (io), 207 IO (io), 208 IO (io), 209 IO (io), 212 IO (io), 213 IO (io), 214 IO (io), 215 IO (io), 217 IO (io), 218 IO (io), 219 IO (io), 221 IO (io), 222 IO (io), 223 IO (io), 224 IO (io), 225 IO (io), 226 IO (io), 227 IO (io), 228 IO (io), 230 IO (io), 231 IO (io), 232 IO (io), 233 IO (io), 236 IO (io), 237 IO (io), 238 IO (io), 239 IO (io), 240 IO (io)
part B pins: 4 VCCINT (5.0V ONLY) (power), 5 GND (power), 14 GND (power), 15 VCCIO (3.3V OR 5.0V) (power), 24 VCCINT (5.0V ONLY) (power), 25 GND (power), 34 GND (power), 35 VCCIO (3.3V OR 5.0V) (power), 44 VCCINT (5.0V ONLY) (power), 45 GND (power), 54 GND (power), 55 VCCIO (3.3V OR 5.0V) (power), 64 VCCINT (5.0V ONLY) (power), 65 GND (power), 66 GND (power), 67 VPP (power), 68 TMS (in), 73 VCCIO (3.3V OR 5.0V) (power), 81 GND (power), 86 VCCIO (3.3V OR 5.0V) (power), 91 TCK (in), 92 TDI (in), 96 GND (power), 101 VCCIO (3.3V OR 5.0V) (power), 110 GND (power), 114 TDO (out), 115 GND (power), 116 VCCIO (3.3V OR 5.0V) (power), 117 VCCINT (5.0V ONLY) (power), 126 GND (power), 127 GND (power), 136 VCCIO (3.3V OR 5.0V) (power), 137 VCCINT (5.0V ONLY) (power), 146 GND (power), 147 GND (power), 156 VCCIO (3.3V OR 5.0V) (power), 157 VCCINT (5.0V ONLY) (power), 166 GND (power), 167 GND (power), 176 VCCIO (3.3V OR 5.0V) (power), 177 VCCINT (5.0V ONLY) (power), 186 GND (power), 187 DIN3/GCLR (io), 192 VCCIO (3.3V OR 5.0V) (power), 200 GND (power), 205 VCCIO (3.3V OR 5.0V) (power), 210 DIN1/GCLK1 (io), 211 DIN2/GCLK2 (io), 216 GND (power), 220 VCCIO (3.3V OR 5.0V) (power), 229 GND (power), 234 DIN4/GOE (io), 235 VCCIO (3.3V OR 5.0V) (power)

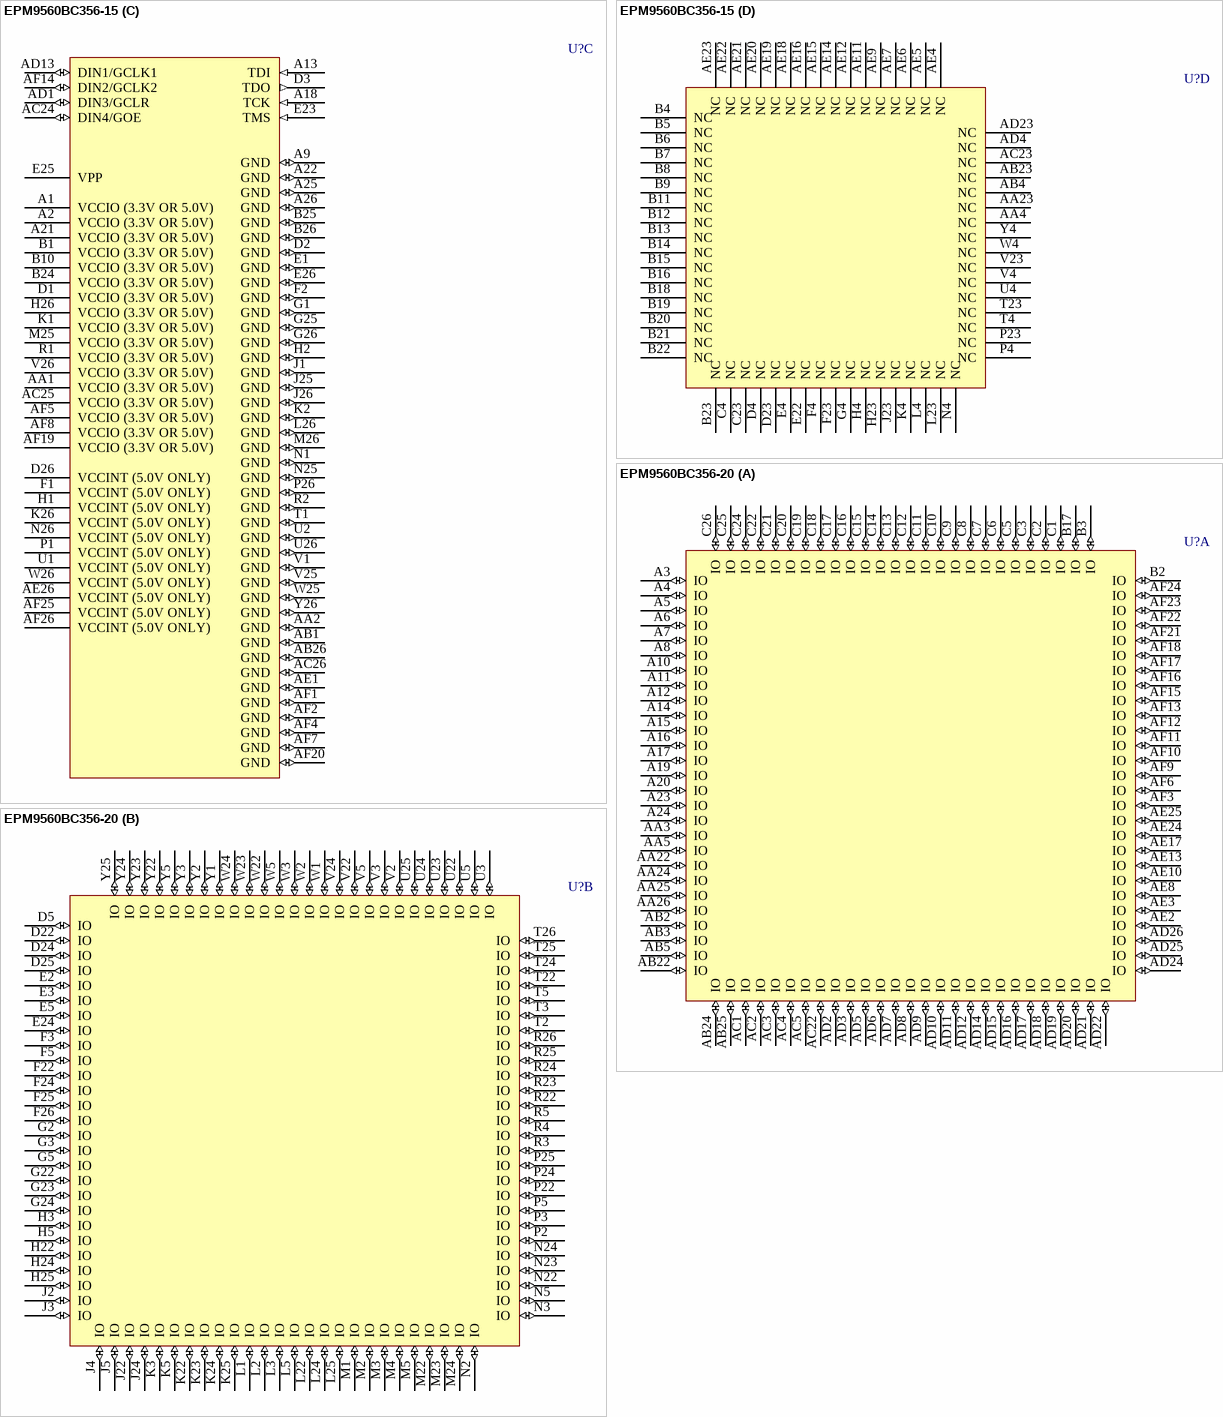
[diagram p22: symbols EPM9560BC356-15 to EPM9560BC356-20]

## EPM9560BC356-15
designator U?
MAX 9000 PLD with 216 I/O Pins, 256-Pin BGA, Commercial Grade; Published: 23-Sep-2002; LatestRevisionDate: 13-Apr-2006; LatestRevisionNote: IPC-7351 Footprint Added.; DatasheetVersion: Jul-1999; PackageVersion: ver14.2, Oct-2005; PackageReference: BGA356; Publisher: Altium Limited; PackageDescription: 356-Ball Ball Grid Array (BGA356); Code_JEDEC: MO-192-BAR-2; ComponentLink1Description: Manufacturer Link; ComponentLink1URL: http://www.altera.com/products/devices/max9k/m9k-index.html; ComponentLink2Description: Datasheet; ComponentLink2URL: http://www.altera.com/literature/ds/m9000.pdf; ComponentLink3Description: Discontinuation Notice; ComponentLink3URL: http://www.altera.com/literature/pcn/pdn0106.pdf
footprint BGA356 (BGA, 356-Leads, Body 35x35mm, Pitch 1.27mm)
3D model EPM9560-BGA356 (356-Ball Ball Grid Array (BGA356))
part A pins: A3 IO (io), A4 IO (io), A5 IO (io), A6 IO (io), A7 IO (io), A8 IO (io), A10 IO (io), A11 IO (io), A12 IO (io), A14 IO (io), A15 IO (io), A16 IO (io), A17 IO (io), A19 IO (io), A20 IO (io), A23 IO (io), A24 IO (io), AA3 IO (io), AA5 IO (io), AA22 IO (io), AA24 IO (io), AA25 IO (io), AA26 IO (io), AB2 IO (io), AB3 IO (io), AB5 IO (io), AB22 IO (io), AB24 IO (io), AB25 IO (io), AC1 IO (io), AC2 IO (io), AC3 IO (io), AC4 IO (io), AC5 IO (io), AC22 IO (io), AD2 IO (io), AD3 IO (io), AD5 IO (io), AD6 IO (io), AD7 IO (io), AD8 IO (io), AD9 IO (io), AD10 IO (io), AD11 IO (io), AD12 IO (io), AD14 IO (io), AD15 IO (io), AD16 IO (io), AD17 IO (io), AD18 IO (io), AD19 IO (io), AD20 IO (io), AD21 IO (io), AD22 IO (io), AD24 IO (io), AD25 IO (io), AD26 IO (io), AE2 IO (io), AE3 IO (io), AE8 IO (io), AE10 IO (io), AE13 IO (io), AE17 IO (io), AE24 IO (io), AE25 IO (io), AF3 IO (io), AF6 IO (io), AF9 IO (io), AF10 IO (io), AF11 IO (io), AF12 IO (io), AF13 IO (io), AF15 IO (io), AF16 IO (io), AF17 IO (io), AF18 IO (io), AF21 IO (io), AF22 IO (io), AF23 IO (io), AF24 IO (io), B2 IO (io), B3 IO (io), B17 IO (io), C1 IO (io), C2 IO (io), C3 IO (io), C5 IO (io), C6 IO (io), C7 IO (io), C8 IO (io), C9 IO (io), C10 IO (io), C11 IO (io), C12 IO (io), C13 IO (io), C14 IO (io), C15 IO (io), C16 IO (io), C17 IO (io), C18 IO (io), C19 IO (io), C20 IO (io), C21 IO (io), C22 IO (io), C24 IO (io), C25 IO (io), C26 IO (io)
part B pins: D5 IO (io), D22 IO (io), D24 IO (io), D25 IO (io), E2 IO (io), E3 IO (io), E5 IO (io), E24 IO (io), F3 IO (io), F5 IO (io), F22 IO (io), F24 IO (io), F25 IO (io), F26 IO (io), G2 IO (io), G3 IO (io), G5 IO (io), G22 IO (io), G23 IO (io), G24 IO (io), H3 IO (io), H5 IO (io), H22 IO (io), H24 IO (io), H25 IO (io), J2 IO (io), J3 IO (io), J4 IO (io), J5 IO (io), J22 IO (io), J24 IO (io), K3 IO (io), K5 IO (io), K22 IO (io), K23 IO (io), K24 IO (io), K25 IO (io), L1 IO (io), L2 IO (io), L3 IO (io), L5 IO (io), L22 IO (io), L24 IO (io), L25 IO (io), M1 IO (io), M2 IO (io), M3 IO (io), M4 IO (io), M5 IO (io), M22 IO (io), M23 IO (io), M24 IO (io), N2 IO (io), N3 IO (io), N5 IO (io), N22 IO (io), N23 IO (io), N24 IO (io), P2 IO (io), P3 IO (io), P5 IO (io), P22 IO (io), P24 IO (io), P25 IO (io), R3 IO (io), R4 IO (io), R5 IO (io), R22 IO (io), R23 IO (io), R24 IO (io), R25 IO (io), R26 IO (io), T2 IO (io), T3 IO (io), T5 IO (io), T22 IO (io), T24 IO (io), T25 IO (io), T26 IO (io), U3 IO (io), U5 IO (io), U22 IO (io), U23 IO (io), U24 IO (io), U25 IO (io), V2 IO (io), V3 IO (io), V5 IO (io), V22 IO (io), V24 IO (io), W1 IO (io), W2 IO (io), W3 IO (io), W5 IO (io), W22 IO (io), W23 IO (io), W24 IO (io), Y1 IO (io), Y2 IO (io), Y3 IO (io), Y5 IO (io), Y22 IO (io), Y23 IO (io), Y24 IO (io), Y25 IO (io)
part C pins: A1 VCCIO (3.3V OR 5.0V) (power), A2 VCCIO (3.3V OR 5.0V) (power), A9 GND (io), A13 TDI (in), A18 TCK (in), A21 VCCIO (3.3V OR 5.0V) (power), A22 GND (io), A25 GND (io), A26 GND (io), AA1 VCCIO (3.3V OR 5.0V) (power), AA2 GND (io), AB1 GND (io), AB26 GND (io), AC24 DIN4/GOE (io), AC25 VCCIO (3.3V OR 5.0V) (power), AC26 GND (io), AD1 DIN3/GCLR (io), AD13 DIN1/GCLK1 (io), AE1 GND (io), AE26 VCCINT (5.0V ONLY) (power), AF1 GND (io), AF2 GND (io), AF4 GND (io), AF5 VCCIO (3.3V OR 5.0V) (power), AF7 GND (io), AF8 VCCIO (3.3V OR 5.0V) (power), AF14 DIN2/GCLK2 (io), AF19 VCCIO (3.3V OR 5.0V) (power), AF20 GND (io), AF25 VCCINT (5.0V ONLY) (power), AF26 VCCINT (5.0V ONLY) (power), B1 VCCIO (3.3V OR 5.0V) (power), B10 VCCIO (3.3V OR 5.0V) (power), B24 VCCIO (3.3V OR 5.0V) (power), B25 GND (io), B26 GND (io), D1 VCCIO (3.3V OR 5.0V) (power), D2 GND (io), D3 TDO (out), D26 VCCINT (5.0V ONLY) (power), E1 GND (io), E23 TMS (in), E25 VPP (power), E26 GND (io), F1 VCCINT (5.0V ONLY) (power), F2 GND (io), G1 GND (io), G25 GND (io), G26 GND (io), H1 VCCINT (5.0V ONLY) (power), H2 GND (io), H26 VCCIO (3.3V OR 5.0V) (power), J1 GND (io), J25 GND (io), J26 GND (io), K1 VCCIO (3.3V OR 5.0V) (power), K2 GND (io), K26 VCCINT (5.0V ONLY) (power), L26 GND (io), M25 VCCIO (3.3V OR 5.0V) (power), M26 GND (io), N1 GND (io), N25 GND (io), N26 VCCINT (5.0V ONLY) (power), P1 VCCINT (5.0V ONLY) (power), P26 GND (io), R1 VCCIO (3.3V OR 5.0V) (power), R2 GND (io), T1 GND (io), U1 VCCINT (5.0V ONLY) (power), U2 GND (io), U26 GND (io), V1 GND (io), V25 GND (io), V26 VCCIO (3.3V OR 5.0V) (power), W25 GND (io), W26 VCCINT (5.0V ONLY) (power), Y26 GND (io)
part D pins: AA4 NC, AA23 NC, AB4 NC, AB23 NC, AC23 NC, AD4 NC, AD23 NC, AE4 NC, AE5 NC, AE6 NC, AE7 NC, AE9 NC, AE11 NC, AE12 NC, AE14 NC, AE15 NC, AE16 NC, AE18 NC, AE19 NC, AE20 NC, AE21 NC, AE22 NC, AE23 NC, B4 NC, B5 NC, B6 NC, B7 NC, B8 NC, B9 NC, B11 NC, B12 NC, B13 NC, B14 NC, B15 NC, B16 NC, B18 NC, B19 NC, B20 NC, B21 NC, B22 NC, B23 NC, C4 NC, C23 NC, D4 NC, D23 NC, E4 NC, E22 NC, F4 NC, F23 NC, G4 NC, H4 NC, H23 NC, J23 NC, K4 NC, L4 NC, L23 NC, N4 NC, P4 NC, P23 NC, T4 NC, T23 NC, U4 NC, V4 NC, V23 NC, W4 NC, Y4 NC

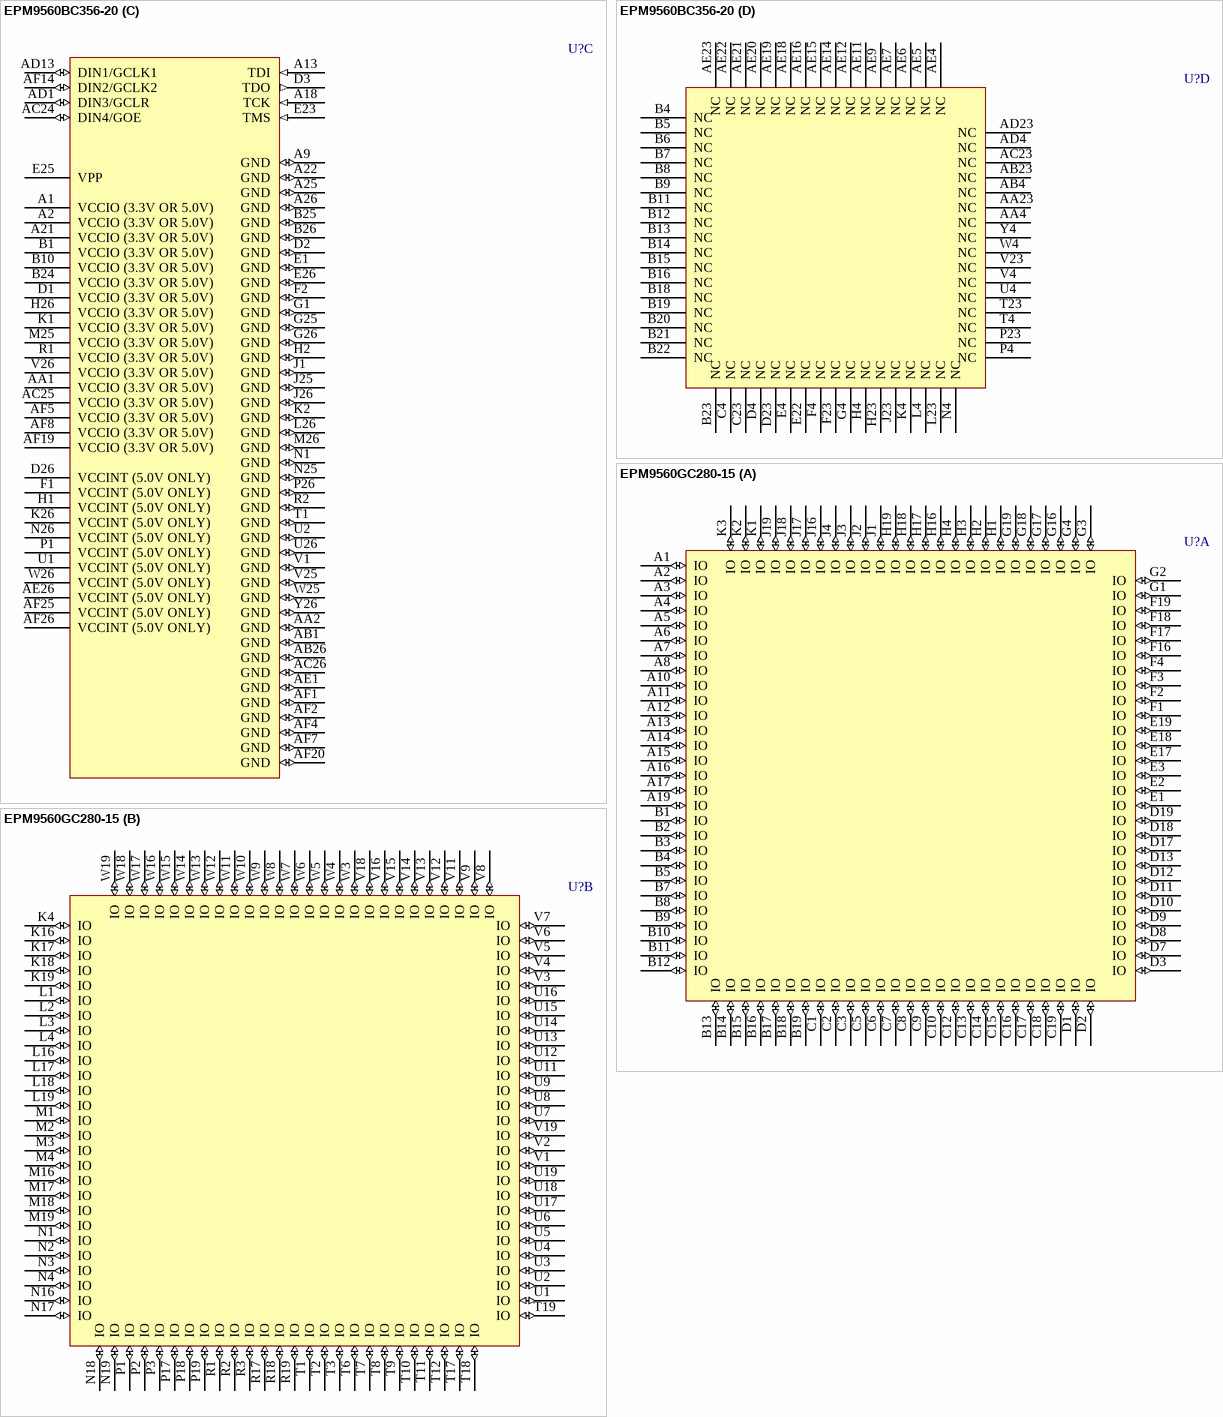
[diagram p23: symbols EPM9560BC356-20 to EPM9560GC280-15]

## EPM9560BC356-20
designator U?
MAX 9000 PLD with 216 I/O Pins, 256-Pin BGA, Commercial Grade; Published: 23-Sep-2002; LatestRevisionDate: 13-Apr-2006; LatestRevisionNote: IPC-7351 Footprint Added.; DatasheetVersion: Jul-1999; PackageVersion: ver14.2, Oct-2005; PackageReference: BGA356; Publisher: Altium Limited; PackageDescription: 356-Ball Ball Grid Array (BGA356); Code_JEDEC: MO-192-BAR-2; ComponentLink1Description: Manufacturer Link; ComponentLink1URL: http://www.altera.com/products/devices/max9k/m9k-index.html; ComponentLink2Description: Datasheet; ComponentLink2URL: http://www.altera.com/literature/ds/m9000.pdf; ComponentLink3Description: Discontinuation Notice; ComponentLink3URL: http://www.altera.com/literature/pcn/pdn0117.pdf
footprint BGA356 (BGA, 356-Leads, Body 35x35mm, Pitch 1.27mm)
3D model EPM9560-BGA356 (356-Ball Ball Grid Array (BGA356))
part A pins: A3 IO (io), A4 IO (io), A5 IO (io), A6 IO (io), A7 IO (io), A8 IO (io), A10 IO (io), A11 IO (io), A12 IO (io), A14 IO (io), A15 IO (io), A16 IO (io), A17 IO (io), A19 IO (io), A20 IO (io), A23 IO (io), A24 IO (io), AA3 IO (io), AA5 IO (io), AA22 IO (io), AA24 IO (io), AA25 IO (io), AA26 IO (io), AB2 IO (io), AB3 IO (io), AB5 IO (io), AB22 IO (io), AB24 IO (io), AB25 IO (io), AC1 IO (io), AC2 IO (io), AC3 IO (io), AC4 IO (io), AC5 IO (io), AC22 IO (io), AD2 IO (io), AD3 IO (io), AD5 IO (io), AD6 IO (io), AD7 IO (io), AD8 IO (io), AD9 IO (io), AD10 IO (io), AD11 IO (io), AD12 IO (io), AD14 IO (io), AD15 IO (io), AD16 IO (io), AD17 IO (io), AD18 IO (io), AD19 IO (io), AD20 IO (io), AD21 IO (io), AD22 IO (io), AD24 IO (io), AD25 IO (io), AD26 IO (io), AE2 IO (io), AE3 IO (io), AE8 IO (io), AE10 IO (io), AE13 IO (io), AE17 IO (io), AE24 IO (io), AE25 IO (io), AF3 IO (io), AF6 IO (io), AF9 IO (io), AF10 IO (io), AF11 IO (io), AF12 IO (io), AF13 IO (io), AF15 IO (io), AF16 IO (io), AF17 IO (io), AF18 IO (io), AF21 IO (io), AF22 IO (io), AF23 IO (io), AF24 IO (io), B2 IO (io), B3 IO (io), B17 IO (io), C1 IO (io), C2 IO (io), C3 IO (io), C5 IO (io), C6 IO (io), C7 IO (io), C8 IO (io), C9 IO (io), C10 IO (io), C11 IO (io), C12 IO (io), C13 IO (io), C14 IO (io), C15 IO (io), C16 IO (io), C17 IO (io), C18 IO (io), C19 IO (io), C20 IO (io), C21 IO (io), C22 IO (io), C24 IO (io), C25 IO (io), C26 IO (io)
part B pins: D5 IO (io), D22 IO (io), D24 IO (io), D25 IO (io), E2 IO (io), E3 IO (io), E5 IO (io), E24 IO (io), F3 IO (io), F5 IO (io), F22 IO (io), F24 IO (io), F25 IO (io), F26 IO (io), G2 IO (io), G3 IO (io), G5 IO (io), G22 IO (io), G23 IO (io), G24 IO (io), H3 IO (io), H5 IO (io), H22 IO (io), H24 IO (io), H25 IO (io), J2 IO (io), J3 IO (io), J4 IO (io), J5 IO (io), J22 IO (io), J24 IO (io), K3 IO (io), K5 IO (io), K22 IO (io), K23 IO (io), K24 IO (io), K25 IO (io), L1 IO (io), L2 IO (io), L3 IO (io), L5 IO (io), L22 IO (io), L24 IO (io), L25 IO (io), M1 IO (io), M2 IO (io), M3 IO (io), M4 IO (io), M5 IO (io), M22 IO (io), M23 IO (io), M24 IO (io), N2 IO (io), N3 IO (io), N5 IO (io), N22 IO (io), N23 IO (io), N24 IO (io), P2 IO (io), P3 IO (io), P5 IO (io), P22 IO (io), P24 IO (io), P25 IO (io), R3 IO (io), R4 IO (io), R5 IO (io), R22 IO (io), R23 IO (io), R24 IO (io), R25 IO (io), R26 IO (io), T2 IO (io), T3 IO (io), T5 IO (io), T22 IO (io), T24 IO (io), T25 IO (io), T26 IO (io), U3 IO (io), U5 IO (io), U22 IO (io), U23 IO (io), U24 IO (io), U25 IO (io), V2 IO (io), V3 IO (io), V5 IO (io), V22 IO (io), V24 IO (io), W1 IO (io), W2 IO (io), W3 IO (io), W5 IO (io), W22 IO (io), W23 IO (io), W24 IO (io), Y1 IO (io), Y2 IO (io), Y3 IO (io), Y5 IO (io), Y22 IO (io), Y23 IO (io), Y24 IO (io), Y25 IO (io)
part C pins: A1 VCCIO (3.3V OR 5.0V) (power), A2 VCCIO (3.3V OR 5.0V) (power), A9 GND (io), A13 TDI (in), A18 TCK (in), A21 VCCIO (3.3V OR 5.0V) (power), A22 GND (io), A25 GND (io), A26 GND (io), AA1 VCCIO (3.3V OR 5.0V) (power), AA2 GND (io), AB1 GND (io), AB26 GND (io), AC24 DIN4/GOE (io), AC25 VCCIO (3.3V OR 5.0V) (power), AC26 GND (io), AD1 DIN3/GCLR (io), AD13 DIN1/GCLK1 (io), AE1 GND (io), AE26 VCCINT (5.0V ONLY) (power), AF1 GND (io), AF2 GND (io), AF4 GND (io), AF5 VCCIO (3.3V OR 5.0V) (power), AF7 GND (io), AF8 VCCIO (3.3V OR 5.0V) (power), AF14 DIN2/GCLK2 (io), AF19 VCCIO (3.3V OR 5.0V) (power), AF20 GND (io), AF25 VCCINT (5.0V ONLY) (power), AF26 VCCINT (5.0V ONLY) (power), B1 VCCIO (3.3V OR 5.0V) (power), B10 VCCIO (3.3V OR 5.0V) (power), B24 VCCIO (3.3V OR 5.0V) (power), B25 GND (io), B26 GND (io), D1 VCCIO (3.3V OR 5.0V) (power), D2 GND (io), D3 TDO (out), D26 VCCINT (5.0V ONLY) (power), E1 GND (io), E23 TMS (in), E25 VPP (power), E26 GND (io), F1 VCCINT (5.0V ONLY) (power), F2 GND (io), G1 GND (io), G25 GND (io), G26 GND (io), H1 VCCINT (5.0V ONLY) (power), H2 GND (io), H26 VCCIO (3.3V OR 5.0V) (power), J1 GND (io), J25 GND (io), J26 GND (io), K1 VCCIO (3.3V OR 5.0V) (power), K2 GND (io), K26 VCCINT (5.0V ONLY) (power), L26 GND (io), M25 VCCIO (3.3V OR 5.0V) (power), M26 GND (io), N1 GND (io), N25 GND (io), N26 VCCINT (5.0V ONLY) (power), P1 VCCINT (5.0V ONLY) (power), P26 GND (io), R1 VCCIO (3.3V OR 5.0V) (power), R2 GND (io), T1 GND (io), U1 VCCINT (5.0V ONLY) (power), U2 GND (io), U26 GND (io), V1 GND (io), V25 GND (io), V26 VCCIO (3.3V OR 5.0V) (power), W25 GND (io), W26 VCCINT (5.0V ONLY) (power), Y26 GND (io)
part D pins: AA4 NC, AA23 NC, AB4 NC, AB23 NC, AC23 NC, AD4 NC, AD23 NC, AE4 NC, AE5 NC, AE6 NC, AE7 NC, AE9 NC, AE11 NC, AE12 NC, AE14 NC, AE15 NC, AE16 NC, AE18 NC, AE19 NC, AE20 NC, AE21 NC, AE22 NC, AE23 NC, B4 NC, B5 NC, B6 NC, B7 NC, B8 NC, B9 NC, B11 NC, B12 NC, B13 NC, B14 NC, B15 NC, B16 NC, B18 NC, B19 NC, B20 NC, B21 NC, B22 NC, B23 NC, C4 NC, C23 NC, D4 NC, D23 NC, E4 NC, E22 NC, F4 NC, F23 NC, G4 NC, H4 NC, H23 NC, J23 NC, K4 NC, L4 NC, L23 NC, N4 NC, P4 NC, P23 NC, T4 NC, T23 NC, U4 NC, V4 NC, V23 NC, W4 NC, Y4 NC

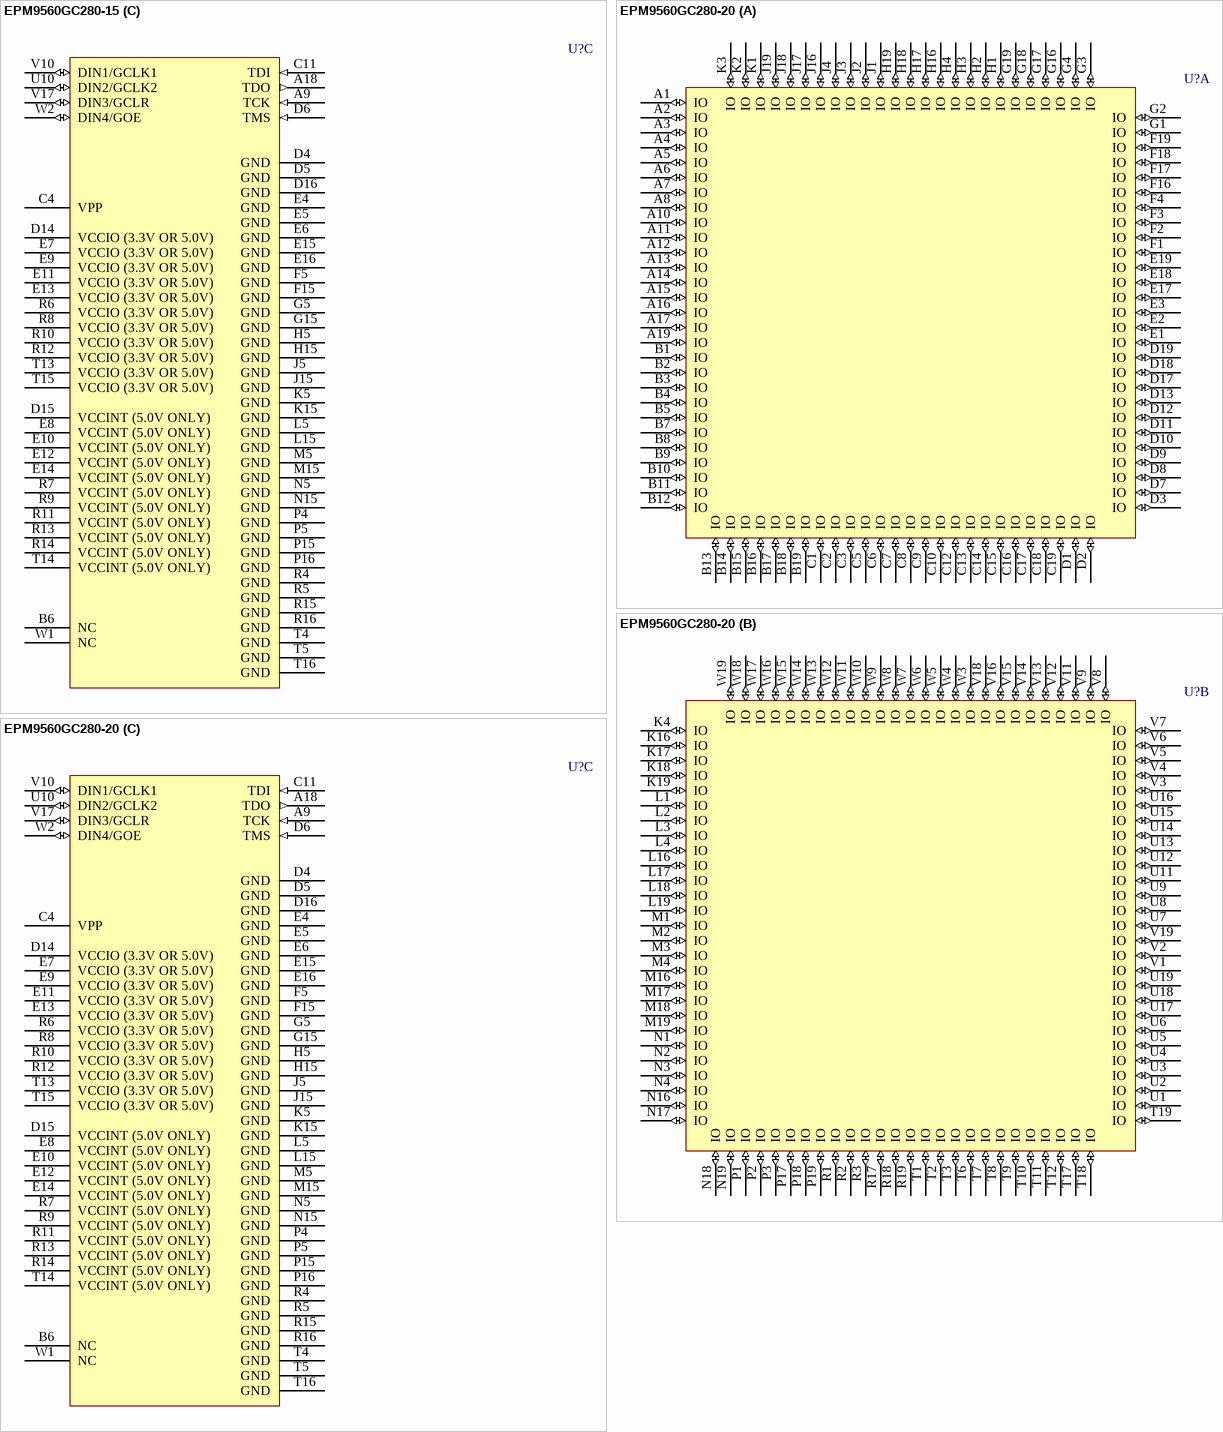
[diagram p24: symbols EPM9560GC280-15 to EPM9560GC280-20]

## EPM9560GC280-15
designator U?
MAX 9000 PLD with 216 I/O Pins, 280-Pin PGA, Commercial Grade; Published: 23-Sep-2002; LatestRevisionDate: 04-Mar-2005; LatestRevisionNote: Stylized 3D Model Added.; DatasheetVersion: Jul-1999; PackageVersion: ver14.2, Oct-2005; PackageReference: PGA280; Publisher: Altium Limited; PackageDescription: 280-Pin Ceramic Pin Grid Array (PGA280); Code_JEDEC: MO-067-AL; ComponentLink1Description: Manufacturer Link; ComponentLink1URL: http://www.altera.com/products/devices/max9k/m9k-index.html; ComponentLink2Description: Datasheet; ComponentLink2URL: http://www.altera.com/literature/ds/m9000.pdf; ComponentLink3Description: Discontinuation Notice; ComponentLink3URL: http://www.altera.com/literature/pcn/pdn0106.pdf
footprint PGA280 (PGA, 280-Leads, Body 50x50mm, Pitch 2.54mm)
3D model EPM9560-PGA280 (280-Pin Ceramic Pin Grid Array (PGA280))
part A pins: A1 IO (io), A2 IO (io), A3 IO (io), A4 IO (io), A5 IO (io), A6 IO (io), A7 IO (io), A8 IO (io), A10 IO (io), A11 IO (io), A12 IO (io), A13 IO (io), A14 IO (io), A15 IO (io), A16 IO (io), A17 IO (io), A19 IO (io), B1 IO (io), B2 IO (io), B3 IO (io), B4 IO (io), B5 IO (io), B7 IO (io), B8 IO (io), B9 IO (io), B10 IO (io), B11 IO (io), B12 IO (io), B13 IO (io), B14 IO (io), B15 IO (io), B16 IO (io), B17 IO (io), B18 IO (io), B19 IO (io), C1 IO (io), C2 IO (io), C3 IO (io), C5 IO (io), C6 IO (io), C7 IO (io), C8 IO (io), C9 IO (io), C10 IO (io), C12 IO (io), C13 IO (io), C14 IO (io), C15 IO (io), C16 IO (io), C17 IO (io), C18 IO (io), C19 IO (io), D1 IO (io), D2 IO (io), D3 IO (io), D7 IO (io), D8 IO (io), D9 IO (io), D10 IO (io), D11 IO (io), D12 IO (io), D13 IO (io), D17 IO (io), D18 IO (io), D19 IO (io), E1 IO (io), E2 IO (io), E3 IO (io), E17 IO (io), E18 IO (io), E19 IO (io), F1 IO (io), F2 IO (io), F3 IO (io), F4 IO (io), F16 IO (io), F17 IO (io), F18 IO (io), F19 IO (io), G1 IO (io), G2 IO (io), G3 IO (io), G4 IO (io), G16 IO (io), G17 IO (io), G18 IO (io), G19 IO (io), H1 IO (io), H2 IO (io), H3 IO (io), H4 IO (io), H16 IO (io), H17 IO (io), H18 IO (io), H19 IO (io), J1 IO (io), J2 IO (io), J3 IO (io), J4 IO (io), J16 IO (io), J17 IO (io), J18 IO (io), J19 IO (io), K1 IO (io), K2 IO (io), K3 IO (io)
part B pins: K4 IO (io), K16 IO (io), K17 IO (io), K18 IO (io), K19 IO (io), L1 IO (io), L2 IO (io), L3 IO (io), L4 IO (io), L16 IO (io), L17 IO (io), L18 IO (io), L19 IO (io), M1 IO (io), M2 IO (io), M3 IO (io), M4 IO (io), M16 IO (io), M17 IO (io), M18 IO (io), M19 IO (io), N1 IO (io), N2 IO (io), N3 IO (io), N4 IO (io), N16 IO (io), N17 IO (io), N18 IO (io), N19 IO (io), P1 IO (io), P2 IO (io), P3 IO (io), P17 IO (io), P18 IO (io), P19 IO (io), R1 IO (io), R2 IO (io), R3 IO (io), R17 IO (io), R18 IO (io), R19 IO (io), T1 IO (io), T2 IO (io), T3 IO (io), T6 IO (io), T7 IO (io), T8 IO (io), T9 IO (io), T10 IO (io), T11 IO (io), T12 IO (io), T17 IO (io), T18 IO (io), T19 IO (io), U1 IO (io), U2 IO (io), U3 IO (io), U4 IO (io), U5 IO (io), U6 IO (io), U7 IO (io), U8 IO (io), U9 IO (io), U11 IO (io), U12 IO (io), U13 IO (io), U14 IO (io), U15 IO (io), U16 IO (io), U17 IO (io), U18 IO (io), U19 IO (io), V1 IO (io), V2 IO (io), V3 IO (io), V4 IO (io), V5 IO (io), V6 IO (io), V7 IO (io), V8 IO (io), V9 IO (io), V11 IO (io), V12 IO (io), V13 IO (io), V14 IO (io), V15 IO (io), V16 IO (io), V18 IO (io), V19 IO (io), W3 IO (io), W4 IO (io), W5 IO (io), W6 IO (io), W7 IO (io), W8 IO (io), W9 IO (io), W10 IO (io), W11 IO (io), W12 IO (io), W13 IO (io), W14 IO (io), W15 IO (io), W16 IO (io), W17 IO (io), W18 IO (io), W19 IO (io)
part C pins: A9 TCK (in), A18 TDO (out), B6 NC, C4 VPP (power), C11 TDI (in), D4 GND (power), D5 GND (power), D6 TMS (in), D14 VCCIO (3.3V OR 5.0V) (power), D15 VCCINT (5.0V ONLY) (power), D16 GND (power), E4 GND (power), E5 GND (power), E6 GND (power), E7 VCCIO (3.3V OR 5.0V) (power), E8 VCCINT (5.0V ONLY) (power), E9 VCCIO (3.3V OR 5.0V) (power), E10 VCCINT (5.0V ONLY) (power), E11 VCCIO (3.3V OR 5.0V) (power), E12 VCCINT (5.0V ONLY) (power), E13 VCCIO (3.3V OR 5.0V) (power), E14 VCCINT (5.0V ONLY) (power), E15 GND (power), E16 GND (power), F5 GND (power), F15 GND (power), G5 GND (power), G15 GND (power), H5 GND (power), H15 GND (power), J5 GND (power), J15 GND (power), K5 GND (power), K15 GND (power), L5 GND (power), L15 GND (power), M5 GND (power), M15 GND (power), N5 GND (power), N15 GND (power), P4 GND (power), P5 GND (power), P15 GND (power), P16 GND (power), R4 GND (power), R5 GND (power), R6 VCCIO (3.3V OR 5.0V) (power), R7 VCCINT (5.0V ONLY) (power), R8 VCCIO (3.3V OR 5.0V) (power), R9 VCCINT (5.0V ONLY) (power), R10 VCCIO (3.3V OR 5.0V) (power), R11 VCCINT (5.0V ONLY) (power), R12 VCCIO (3.3V OR 5.0V) (power), R13 VCCINT (5.0V ONLY) (power), R14 VCCINT (5.0V ONLY) (power), R15 GND (power), R16 GND (power), T4 GND (power), T5 GND (power), T13 VCCIO (3.3V OR 5.0V) (power), T14 VCCINT (5.0V ONLY) (power), T15 VCCIO (3.3V OR 5.0V) (power), T16 GND (power), U10 DIN2/GCLK2 (io), V10 DIN1/GCLK1 (io), V17 DIN3/GCLR (io), W1 NC, W2 DIN4/GOE (io)

## EPM9560GC280-20
designator U?
MAX 9000 PLD with 216 I/O Pins, 280-Pin PGA, Commercial Grade; Published: 23-Sep-2002; LatestRevisionDate: 04-Mar-2005; LatestRevisionNote: Stylized 3D Model Added.; DatasheetVersion: Jul-1999; PackageVersion: ver14.2, Oct-2005; PackageReference: PGA280; Publisher: Altium Limited; PackageDescription: 280-Pin Ceramic Pin Grid Array (PGA280); Code_JEDEC: MO-067-AL; ComponentLink1Description: Manufacturer Link; ComponentLink1URL: http://www.altera.com/products/devices/max9k/m9k-index.html; ComponentLink2Description: Datasheet; ComponentLink2URL: http://www.altera.com/literature/ds/m9000.pdf; ComponentLink3Description: Discontinuation Notice; ComponentLink3URL: http://www.altera.com/literature/pcn/pdn0106.pdf
footprint PGA280 (PGA, 280-Leads, Body 50x50mm, Pitch 2.54mm)
3D model EPM9560-PGA280 (280-Pin Ceramic Pin Grid Array (PGA280))
part A pins: A1 IO (io), A2 IO (io), A3 IO (io), A4 IO (io), A5 IO (io), A6 IO (io), A7 IO (io), A8 IO (io), A10 IO (io), A11 IO (io), A12 IO (io), A13 IO (io), A14 IO (io), A15 IO (io), A16 IO (io), A17 IO (io), A19 IO (io), B1 IO (io), B2 IO (io), B3 IO (io), B4 IO (io), B5 IO (io), B7 IO (io), B8 IO (io), B9 IO (io), B10 IO (io), B11 IO (io), B12 IO (io), B13 IO (io), B14 IO (io), B15 IO (io), B16 IO (io), B17 IO (io), B18 IO (io), B19 IO (io), C1 IO (io), C2 IO (io), C3 IO (io), C5 IO (io), C6 IO (io), C7 IO (io), C8 IO (io), C9 IO (io), C10 IO (io), C12 IO (io), C13 IO (io), C14 IO (io), C15 IO (io), C16 IO (io), C17 IO (io), C18 IO (io), C19 IO (io), D1 IO (io), D2 IO (io), D3 IO (io), D7 IO (io), D8 IO (io), D9 IO (io), D10 IO (io), D11 IO (io), D12 IO (io), D13 IO (io), D17 IO (io), D18 IO (io), D19 IO (io), E1 IO (io), E2 IO (io), E3 IO (io), E17 IO (io), E18 IO (io), E19 IO (io), F1 IO (io), F2 IO (io), F3 IO (io), F4 IO (io), F16 IO (io), F17 IO (io), F18 IO (io), F19 IO (io), G1 IO (io), G2 IO (io), G3 IO (io), G4 IO (io), G16 IO (io), G17 IO (io), G18 IO (io), G19 IO (io), H1 IO (io), H2 IO (io), H3 IO (io), H4 IO (io), H16 IO (io), H17 IO (io), H18 IO (io), H19 IO (io), J1 IO (io), J2 IO (io), J3 IO (io), J4 IO (io), J16 IO (io), J17 IO (io), J18 IO (io), J19 IO (io), K1 IO (io), K2 IO (io), K3 IO (io)
part B pins: K4 IO (io), K16 IO (io), K17 IO (io), K18 IO (io), K19 IO (io), L1 IO (io), L2 IO (io), L3 IO (io), L4 IO (io), L16 IO (io), L17 IO (io), L18 IO (io), L19 IO (io), M1 IO (io), M2 IO (io), M3 IO (io), M4 IO (io), M16 IO (io), M17 IO (io), M18 IO (io), M19 IO (io), N1 IO (io), N2 IO (io), N3 IO (io), N4 IO (io), N16 IO (io), N17 IO (io), N18 IO (io), N19 IO (io), P1 IO (io), P2 IO (io), P3 IO (io), P17 IO (io), P18 IO (io), P19 IO (io), R1 IO (io), R2 IO (io), R3 IO (io), R17 IO (io), R18 IO (io), R19 IO (io), T1 IO (io), T2 IO (io), T3 IO (io), T6 IO (io), T7 IO (io), T8 IO (io), T9 IO (io), T10 IO (io), T11 IO (io), T12 IO (io), T17 IO (io), T18 IO (io), T19 IO (io), U1 IO (io), U2 IO (io), U3 IO (io), U4 IO (io), U5 IO (io), U6 IO (io), U7 IO (io), U8 IO (io), U9 IO (io), U11 IO (io), U12 IO (io), U13 IO (io), U14 IO (io), U15 IO (io), U16 IO (io), U17 IO (io), U18 IO (io), U19 IO (io), V1 IO (io), V2 IO (io), V3 IO (io), V4 IO (io), V5 IO (io), V6 IO (io), V7 IO (io), V8 IO (io), V9 IO (io), V11 IO (io), V12 IO (io), V13 IO (io), V14 IO (io), V15 IO (io), V16 IO (io), V18 IO (io), V19 IO (io), W3 IO (io), W4 IO (io), W5 IO (io), W6 IO (io), W7 IO (io), W8 IO (io), W9 IO (io), W10 IO (io), W11 IO (io), W12 IO (io), W13 IO (io), W14 IO (io), W15 IO (io), W16 IO (io), W17 IO (io), W18 IO (io), W19 IO (io)
part C pins: A9 TCK (in), A18 TDO (out), B6 NC, C4 VPP (power), C11 TDI (in), D4 GND (power), D5 GND (power), D6 TMS (in), D14 VCCIO (3.3V OR 5.0V) (power), D15 VCCINT (5.0V ONLY) (power), D16 GND (power), E4 GND (power), E5 GND (power), E6 GND (power), E7 VCCIO (3.3V OR 5.0V) (power), E8 VCCINT (5.0V ONLY) (power), E9 VCCIO (3.3V OR 5.0V) (power), E10 VCCINT (5.0V ONLY) (power), E11 VCCIO (3.3V OR 5.0V) (power), E12 VCCINT (5.0V ONLY) (power), E13 VCCIO (3.3V OR 5.0V) (power), E14 VCCINT (5.0V ONLY) (power), E15 GND (power), E16 GND (power), F5 GND (power), F15 GND (power), G5 GND (power), G15 GND (power), H5 GND (power), H15 GND (power), J5 GND (power), J15 GND (power), K5 GND (power), K15 GND (power), L5 GND (power), L15 GND (power), M5 GND (power), M15 GND (power), N5 GND (power), N15 GND (power), P4 GND (power), P5 GND (power), P15 GND (power), P16 GND (power), R4 GND (power), R5 GND (power), R6 VCCIO (3.3V OR 5.0V) (power), R7 VCCINT (5.0V ONLY) (power), R8 VCCIO (3.3V OR 5.0V) (power), R9 VCCINT (5.0V ONLY) (power), R10 VCCIO (3.3V OR 5.0V) (power), R11 VCCINT (5.0V ONLY) (power), R12 VCCIO (3.3V OR 5.0V) (power), R13 VCCINT (5.0V ONLY) (power), R14 VCCINT (5.0V ONLY) (power), R15 GND (power), R16 GND (power), T4 GND (power), T5 GND (power), T13 VCCIO (3.3V OR 5.0V) (power), T14 VCCINT (5.0V ONLY) (power), T15 VCCIO (3.3V OR 5.0V) (power), T16 GND (power), U10 DIN2/GCLK2 (io), V10 DIN1/GCLK1 (io), V17 DIN3/GCLR (io), W1 NC, W2 DIN4/GOE (io)

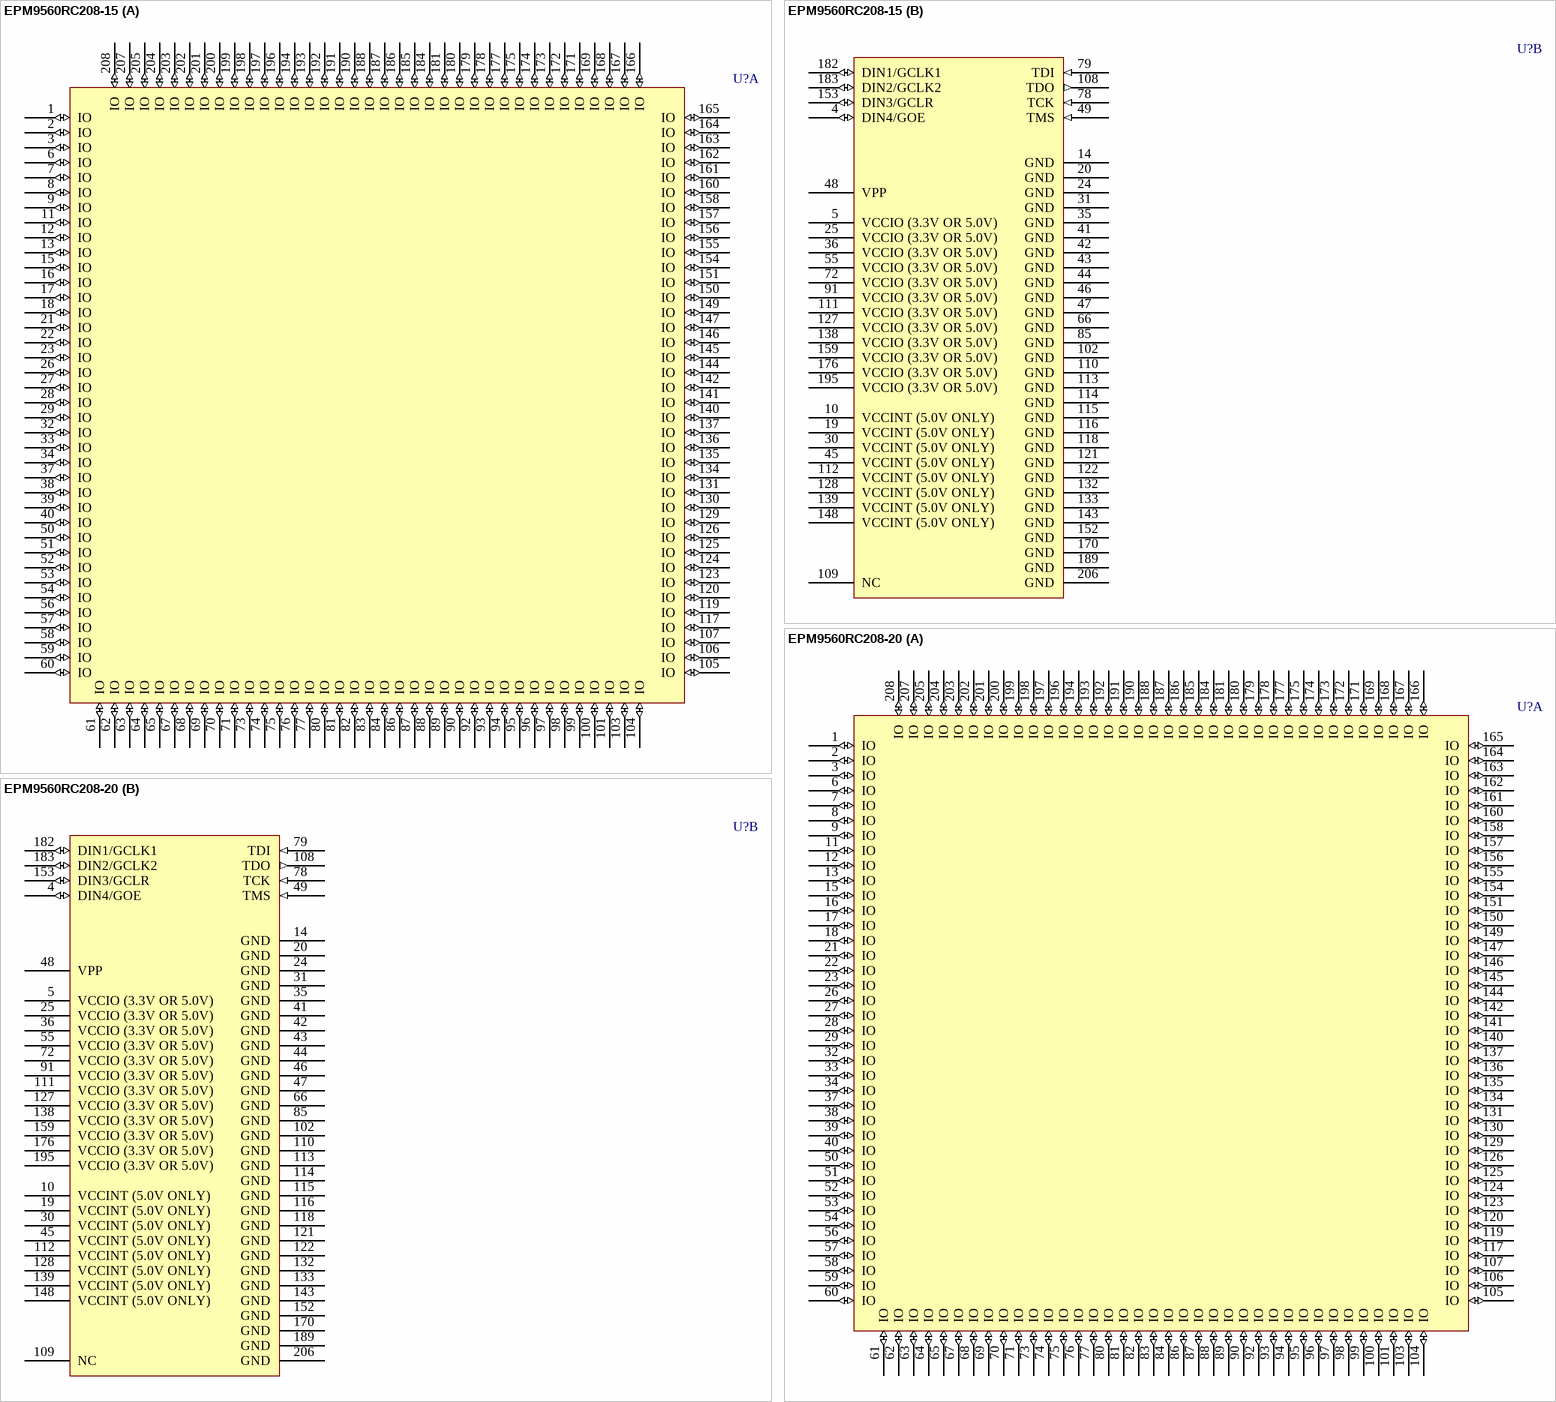
[diagram p25: symbols EPM9560RC208-15 to EPM9560RC208-20]